# Altium integrated library Xilinx XC3000.IntLib: 584 symbols (part 31 of 34)
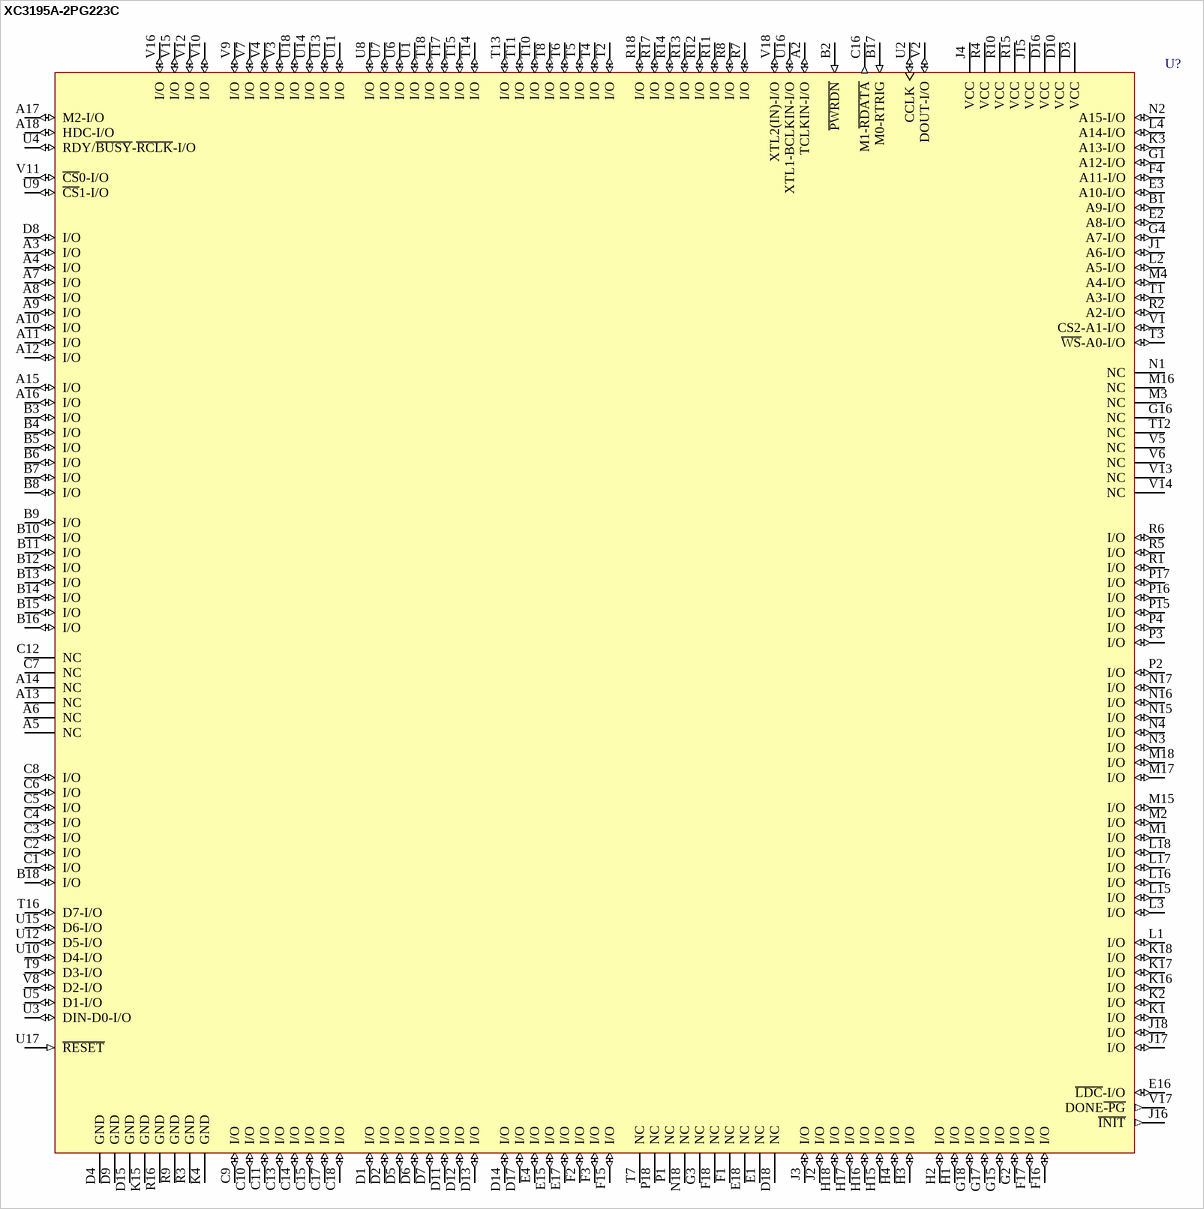
[diagram p347: symbol XC3195A-2PG223C]

## XC3195A-2PG223C
designator U?
Logic Cell Array with 484 CLBs, with 174 I/O Pins, 223-Pin PGA, Commercial Grade; ComponentAvailability: Not for New Design; Published: 8-Jun-2000; LatestRevisionDate: 04-Mar-2005; LatestRevisionNote: Stylized 3D Model Added.; DatasheetVersion: 1994; PackageVersion: ver1.0, Jun-2000; PackageReference: PG223; Publisher: Altium Limited; PackageDescription: 223-Pin Ceramic Pin Grid Array (PG223); ComponentLink1Description: Manufacturer Link; ComponentLink1URL: http://www.xilinx.com/xlnx/xweb/xil_publications_display.jsp?sGlobalNavPick=&sSecondaryNavPick=&category=-18989&iLanguageID=1; ComponentLink2Description: Datasheet; ComponentLink2URL: http://direct.xilinx.com/bvdocs/publications/3000.pdf
footprint PG223 (PGA, 223-Leads, Body 47x47mm, Pitch 2.54mm)
3D model XC3195A-PG223 (223-Pin Ceramic Pin Grid Array (PG223))
pins: A2 TCLKIN-I/O (io), A3 I/O (io), A4 I/O (io), A5 NC, A6 NC, A7 I/O (io), A8 I/O (io), A9 I/O (io), A10 I/O (io), A11 I/O (io), A12 I/O (io), A13 NC, A14 NC, A15 I/O (io), A16 I/O (io), A17 M2-I/O (io), A18 HDC-I/O (io), B1 A9-I/O (io), B2 ~{PWRDN} (in), B3 I/O (io), B4 I/O (io), B5 I/O (io), B6 I/O (io), B7 I/O (io), B8 I/O (io), B9 I/O (io), B10 I/O (io), B11 I/O (io), B12 I/O (io), B13 I/O (io), B14 I/O (io), B15 I/O (io), B16 I/O (io), B17 M0-RTRIG (in), B18 I/O (io), C1 I/O (io), C2 I/O (io), C3 I/O (io), C4 I/O (io), C5 I/O (io), C6 I/O (io), C7 NC, C8 I/O (io), C9 I/O (io), C10 I/O (io), C11 I/O (io), C12 NC, C13 I/O (io), C14 I/O (io), C15 I/O (io), C16 M1-~{RDATA} (out), C17 I/O (io), C18 I/O (io), D1 I/O (io), D2 I/O (io), D3 VCC (power), D4 GND (power), D5 I/O (io), D6 I/O (io), D7 I/O (io), D8 I/O (io), D9 GND (power), D10 VCC (power), D11 I/O (io), D12 I/O (io), D13 I/O (io), D14 I/O (io), D15 GND (power), D16 VCC (power), D17 I/O (io), D18 NC, E1 NC, E2 A8-I/O (io), E3 A10-I/O (io), E4 I/O (io), E15 I/O (io), E16 ~{LDC}-I/O (io), E17 I/O (io), E18 NC, F1 NC, F2 I/O (io), F3 I/O (io), F4 A11-I/O (io), F15 I/O (io), F16 I/O (io), F17 I/O (io), F18 NC, G1 A12-I/O (io), G2 I/O (io), G3 NC, G4 A7-I/O (io), G15 I/O (io), G16 NC, G17 I/O (io), G18 I/O (io), H1 I/O (io), H2 I/O (io), H3 I/O (io), H4 I/O (io), H15 I/O (io), H16 I/O (io), H17 I/O (io), H18 I/O (io), J1 A6-I/O (io), J2 I/O (io), J3 I/O (io), J4 VCC (power), J15 VCC (power), J16 ~{INIT} (out), J17 I/O (io), J18 I/O (io), K1 I/O (io), K2 I/O (io), K3 A13-I/O (io), K4 GND (power), K15 GND (power), K16 I/O (io), K17 I/O (io), K18 I/O (io), L1 I/O (io), L2 A5-I/O (io), L3 I/O (io), L4 A14-I/O (io), L15 I/O (io), L16 I/O (io), L17 I/O (io), L18 I/O (io), M1 I/O (io), M2 I/O (io), M3 NC, M4 A4-I/O (io), M15 I/O (io), M16 NC, M17 I/O (io), M18 I/O (io), N1 NC, N2 A15-I/O (io), N3 I/O (io), N4 I/O (io), N15 I/O (io), N16 I/O (io), N17 I/O (io), N18 NC, P1 NC, P2 I/O (io), P3 I/O (io), P4 I/O (io), P15 I/O (io), P16 I/O (io), P17 I/O (io), P18 NC, R1 I/O (io), R2 A2-I/O (io), R3 GND (power), R4 VCC (power), R5 I/O (io), R6 I/O (io), R7 I/O (io), R8 I/O (io), R9 GND (power), R10 VCC (power), R11 I/O (io), R12 I/O (io), R13 I/O (io), R14 I/O (io), R15 VCC (power), R16 GND (power), R17 I/O (io), R18 I/O (io), T1 A3-I/O (io), T2 I/O (io), T3 ~{WS}-A0-I/O (io), T4 I/O (io), T5 I/O (io), T6 I/O (io), T7 NC, T8 I/O (io), T9 D3-I/O (io), T10 I/O (io), T11 I/O (io), T12 NC, T13 I/O (io), T14 I/O (io), T15 I/O (io), T16 D7-I/O (io), T17 I/O (io), T18 I/O (io), U1 I/O (io), U2 CCLK (io), U3 DIN-D0-I/O (io), U4 RDY/~{BUSY}-~{RCLK}-I/O (io), U5 D1-I/O (io), U6 I/O (io), U7 I/O (io), U8 I/O (io), U9 ~{CS}1-I/O (io), U10 D4-I/O (io), U11 I/O (io), U12 D5-I/O (io), U13 I/O (io), U14 I/O (io), U15 D6-I/O (io), U16 XTL1-BCLKIN-I/O (io), U17 ~{RESET} (in), U18 I/O (io), V1 CS2-A1-I/O (io), V2 DOUT-I/O (io), V3 I/O (io), V4 I/O (io), V5 NC, V6 NC, V7 I/O (io), V8 D2-I/O (io), V9 I/O (io), V10 I/O (io), V11 ~{CS}0-I/O (io), V12 I/O (io), V13 NC, V14 NC, V15 I/O (io), V16 I/O (io), V17 DONE~{-PG} (out), V18 XTL2(IN)-I/O (io)

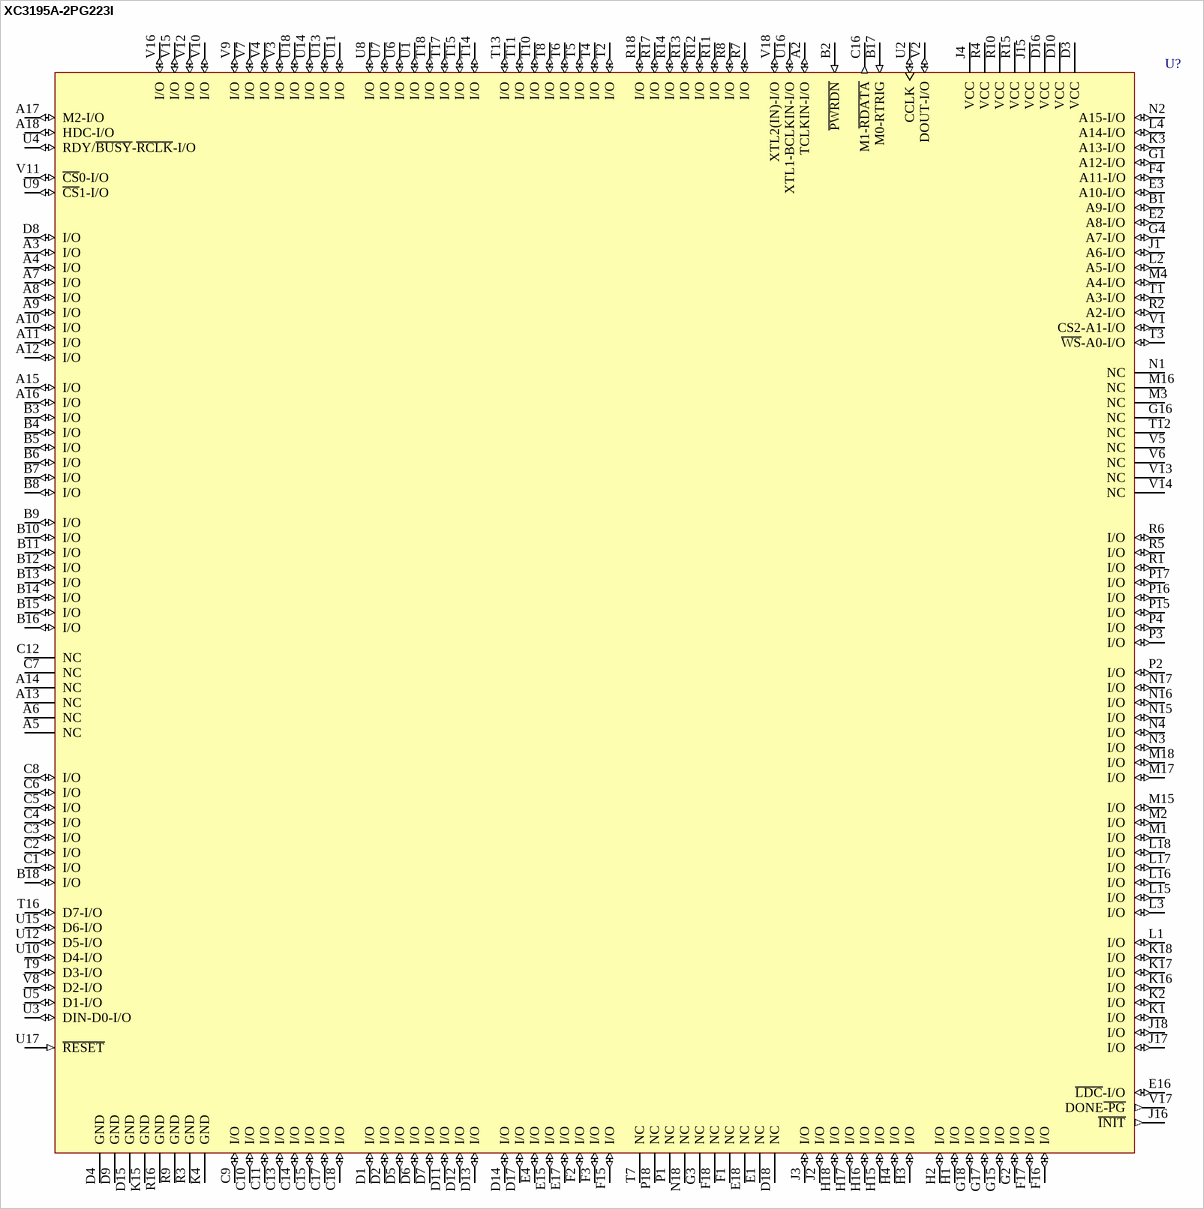
[diagram p275: symbol XC3195A-2PG223I]

## XC3195A-2PG223I
designator U?
Logic Cell Array with 484 CLBs, with 174 I/O Pins, 223-Pin PGA, Industrial Grade; ComponentAvailability: Not for New Design; Published: 8-Jun-2000; LatestRevisionDate: 04-Mar-2005; LatestRevisionNote: Stylized 3D Model Added.; DatasheetVersion: 1994; PackageVersion: ver1.0, Jun-2000; PackageReference: PG223; Publisher: Altium Limited; PackageDescription: 223-Pin Ceramic Pin Grid Array (PG223); ComponentLink1Description: Manufacturer Link; ComponentLink1URL: http://www.xilinx.com/xlnx/xweb/xil_publications_display.jsp?sGlobalNavPick=&sSecondaryNavPick=&category=-18989&iLanguageID=1; ComponentLink2Description: Datasheet; ComponentLink2URL: http://direct.xilinx.com/bvdocs/publications/3000.pdf
footprint PG223 (PGA, 223-Leads, Body 47x47mm, Pitch 2.54mm)
3D model XC3195A-PG223 (223-Pin Ceramic Pin Grid Array (PG223))
pins: A2 TCLKIN-I/O (io), A3 I/O (io), A4 I/O (io), A5 NC, A6 NC, A7 I/O (io), A8 I/O (io), A9 I/O (io), A10 I/O (io), A11 I/O (io), A12 I/O (io), A13 NC, A14 NC, A15 I/O (io), A16 I/O (io), A17 M2-I/O (io), A18 HDC-I/O (io), B1 A9-I/O (io), B2 ~{PWRDN} (in), B3 I/O (io), B4 I/O (io), B5 I/O (io), B6 I/O (io), B7 I/O (io), B8 I/O (io), B9 I/O (io), B10 I/O (io), B11 I/O (io), B12 I/O (io), B13 I/O (io), B14 I/O (io), B15 I/O (io), B16 I/O (io), B17 M0-RTRIG (in), B18 I/O (io), C1 I/O (io), C2 I/O (io), C3 I/O (io), C4 I/O (io), C5 I/O (io), C6 I/O (io), C7 NC, C8 I/O (io), C9 I/O (io), C10 I/O (io), C11 I/O (io), C12 NC, C13 I/O (io), C14 I/O (io), C15 I/O (io), C16 M1-~{RDATA} (out), C17 I/O (io), C18 I/O (io), D1 I/O (io), D2 I/O (io), D3 VCC (power), D4 GND (power), D5 I/O (io), D6 I/O (io), D7 I/O (io), D8 I/O (io), D9 GND (power), D10 VCC (power), D11 I/O (io), D12 I/O (io), D13 I/O (io), D14 I/O (io), D15 GND (power), D16 VCC (power), D17 I/O (io), D18 NC, E1 NC, E2 A8-I/O (io), E3 A10-I/O (io), E4 I/O (io), E15 I/O (io), E16 ~{LDC}-I/O (io), E17 I/O (io), E18 NC, F1 NC, F2 I/O (io), F3 I/O (io), F4 A11-I/O (io), F15 I/O (io), F16 I/O (io), F17 I/O (io), F18 NC, G1 A12-I/O (io), G2 I/O (io), G3 NC, G4 A7-I/O (io), G15 I/O (io), G16 NC, G17 I/O (io), G18 I/O (io), H1 I/O (io), H2 I/O (io), H3 I/O (io), H4 I/O (io), H15 I/O (io), H16 I/O (io), H17 I/O (io), H18 I/O (io), J1 A6-I/O (io), J2 I/O (io), J3 I/O (io), J4 VCC (power), J15 VCC (power), J16 ~{INIT} (out), J17 I/O (io), J18 I/O (io), K1 I/O (io), K2 I/O (io), K3 A13-I/O (io), K4 GND (power), K15 GND (power), K16 I/O (io), K17 I/O (io), K18 I/O (io), L1 I/O (io), L2 A5-I/O (io), L3 I/O (io), L4 A14-I/O (io), L15 I/O (io), L16 I/O (io), L17 I/O (io), L18 I/O (io), M1 I/O (io), M2 I/O (io), M3 NC, M4 A4-I/O (io), M15 I/O (io), M16 NC, M17 I/O (io), M18 I/O (io), N1 NC, N2 A15-I/O (io), N3 I/O (io), N4 I/O (io), N15 I/O (io), N16 I/O (io), N17 I/O (io), N18 NC, P1 NC, P2 I/O (io), P3 I/O (io), P4 I/O (io), P15 I/O (io), P16 I/O (io), P17 I/O (io), P18 NC, R1 I/O (io), R2 A2-I/O (io), R3 GND (power), R4 VCC (power), R5 I/O (io), R6 I/O (io), R7 I/O (io), R8 I/O (io), R9 GND (power), R10 VCC (power), R11 I/O (io), R12 I/O (io), R13 I/O (io), R14 I/O (io), R15 VCC (power), R16 GND (power), R17 I/O (io), R18 I/O (io), T1 A3-I/O (io), T2 I/O (io), T3 ~{WS}-A0-I/O (io), T4 I/O (io), T5 I/O (io), T6 I/O (io), T7 NC, T8 I/O (io), T9 D3-I/O (io), T10 I/O (io), T11 I/O (io), T12 NC, T13 I/O (io), T14 I/O (io), T15 I/O (io), T16 D7-I/O (io), T17 I/O (io), T18 I/O (io), U1 I/O (io), U2 CCLK (io), U3 DIN-D0-I/O (io), U4 RDY/~{BUSY}-~{RCLK}-I/O (io), U5 D1-I/O (io), U6 I/O (io), U7 I/O (io), U8 I/O (io), U9 ~{CS}1-I/O (io), U10 D4-I/O (io), U11 I/O (io), U12 D5-I/O (io), U13 I/O (io), U14 I/O (io), U15 D6-I/O (io), U16 XTL1-BCLKIN-I/O (io), U17 ~{RESET} (in), U18 I/O (io), V1 CS2-A1-I/O (io), V2 DOUT-I/O (io), V3 I/O (io), V4 I/O (io), V5 NC, V6 NC, V7 I/O (io), V8 D2-I/O (io), V9 I/O (io), V10 I/O (io), V11 ~{CS}0-I/O (io), V12 I/O (io), V13 NC, V14 NC, V15 I/O (io), V16 I/O (io), V17 DONE~{-PG} (out), V18 XTL2(IN)-I/O (io)

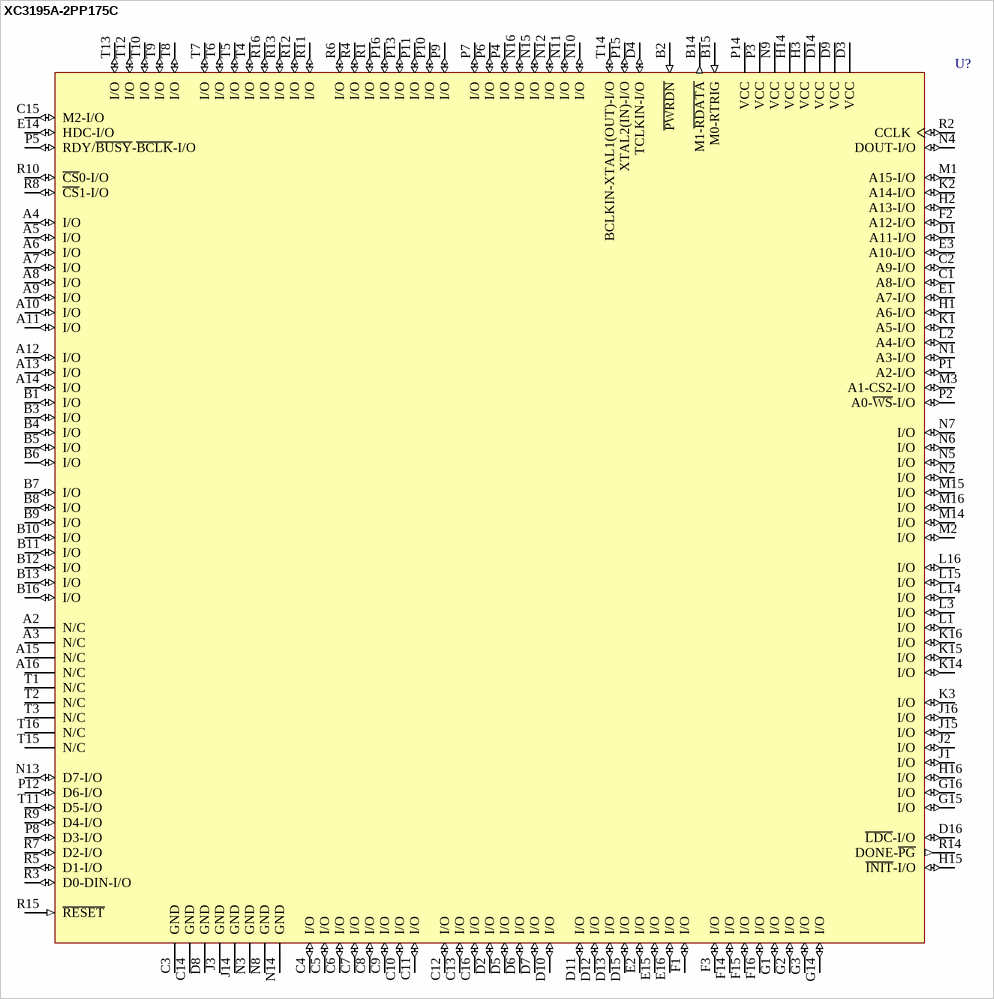
[diagram p276: symbol XC3195A-2PP175C]

## XC3195A-2PP175C
designator U?
Logic Cell Array with 484 CLBs, with 144 I/O Pins, 175-Pin PGA, Commercial Grade; ComponentAvailability: Not for New Design; Published: 8-Jun-2000; LatestRevisionDate: 04-Mar-2005; LatestRevisionNote: Stylized 3D Model Added.; DatasheetVersion: 1994; PackageVersion: ver1.1, Apr-2001; PackageReference: PP175; Publisher: Altium Limited; PackageDescription: 175-Pin Plastic Pin Grid Array (PP175); Code_JEDEC: MO-083-AH; ComponentLink1Description: Manufacturer Link; ComponentLink1URL: http://www.xilinx.com/xlnx/xweb/xil_publications_display.jsp?sGlobalNavPick=&sSecondaryNavPick=&category=-18989&iLanguageID=1; ComponentLink2Description: Datasheet; ComponentLink2URL: http://direct.xilinx.com/bvdocs/publications/3000.pdf
footprint PP175 (PGA, 175-Leads, Body 42x42mm, Pitch 2.54mm)
3D model XC3195A-PP175 (175-Pin Plastic Pin Grid Array (PP175))
pins: A2 N/C, A3 N/C, A4 I/O (io), A5 I/O (io), A6 I/O (io), A7 I/O (io), A8 I/O (io), A9 I/O (io), A10 I/O (io), A11 I/O (io), A12 I/O (io), A13 I/O (io), A14 I/O (io), A15 N/C, A16 N/C, B1 I/O (io), B2 ~{PWRDN} (in), B3 I/O (io), B4 I/O (io), B5 I/O (io), B6 I/O (io), B7 I/O (io), B8 I/O (io), B9 I/O (io), B10 I/O (io), B11 I/O (io), B12 I/O (io), B13 I/O (io), B14 M1-~{RDATA} (out), B15 M0-RTRIG (in), B16 I/O (io), C1 A8-I/O (io), C2 A9-I/O (io), C3 GND (power), C4 I/O (io), C5 I/O (io), C6 I/O (io), C7 I/O (io), C8 I/O (io), C9 I/O (io), C10 I/O (io), C11 I/O (io), C12 I/O (io), C13 I/O (io), C14 GND (power), C15 M2-I/O (io), C16 I/O (io), D1 A11-I/O (io), D2 I/O (io), D3 VCC (power), D4 TCLKIN-I/O (io), D5 I/O (io), D6 I/O (io), D7 I/O (io), D8 GND (power), D9 VCC (power), D10 I/O (io), D11 I/O (io), D12 I/O (io), D13 I/O (io), D14 VCC (power), D15 I/O (io), D16 ~{LDC}-I/O (io), E1 A7-I/O (io), E2 I/O (io), E3 A10-I/O (io), E14 HDC-I/O (io), E15 I/O (io), E16 I/O (io), F1 I/O (io), F2 A12-I/O (io), F3 I/O (io), F14 I/O (io), F15 I/O (io), F16 I/O (io), G1 I/O (io), G2 I/O (io), G3 I/O (io), G14 I/O (io), G15 I/O (io), G16 I/O (io), H1 A6-I/O (io), H2 A13-I/O (io), H3 VCC (power), H14 VCC (power), H15 ~{INIT}-I/O (io), H16 I/O (io), J1 I/O (io), J2 I/O (io), J3 GND (power), J14 GND (power), J15 I/O (io), J16 I/O (io), K1 A5-I/O (io), K2 A14-I/O (io), K3 I/O (io), K14 I/O (io), K15 I/O (io), K16 I/O (io), L1 I/O (io), L2 A4-I/O (io), L3 I/O (io), L14 I/O (io), L15 I/O (io), L16 I/O (io), M1 A15-I/O (io), M2 I/O (io), M3 A1-CS2-I/O (io), M14 I/O (io), M15 I/O (io), M16 I/O (io), N1 A3-I/O (io), N2 I/O (io), N3 GND (power), N4 DOUT-I/O (io), N5 I/O (io), N6 I/O (io), N7 I/O (io), N8 GND (power), N9 VCC (power), N10 I/O (io), N11 I/O (io), N12 I/O (io), N13 D7-I/O (io), N14 GND (power), N15 I/O (io), N16 I/O (io), P1 A2-I/O (io), P2 A0-~{WS}-I/O (io), P3 VCC (power), P4 I/O (io), P5 RDY/~{BUSY}-~{BCLK}-I/O (io), P6 I/O (io), P7 I/O (io), P8 D3-I/O (io), P9 I/O (io), P10 I/O (io), P11 I/O (io), P12 D6-I/O (io), P13 I/O (io), P14 VCC (power), P15 XTAL2(IN)-I/O (io), P16 I/O (io), R1 I/O (io), R2 CCLK (io), R3 D0-DIN-I/O (io), R4 I/O (io), R5 D1-I/O (io), R6 I/O (io), R7 D2-I/O (io), R8 ~{CS}1-I/O (io), R9 D4-I/O (io), R10 ~{CS}0-I/O (io), R11 I/O (io), R12 I/O (io), R13 I/O (io), R14 DONE-~{PG} (out), R15 ~{RESET} (in), R16 I/O (io), T1 N/C, T2 N/C, T3 N/C, T4 I/O (io), T5 I/O (io), T6 I/O (io), T7 I/O (io), T8 I/O (io), T9 I/O (io), T10 I/O (io), T11 D5-I/O (io), T12 I/O (io), T13 I/O (io), T14 BCLKIN-XTAL1(OUT)-I/O (io), T15 N/C, T16 N/C

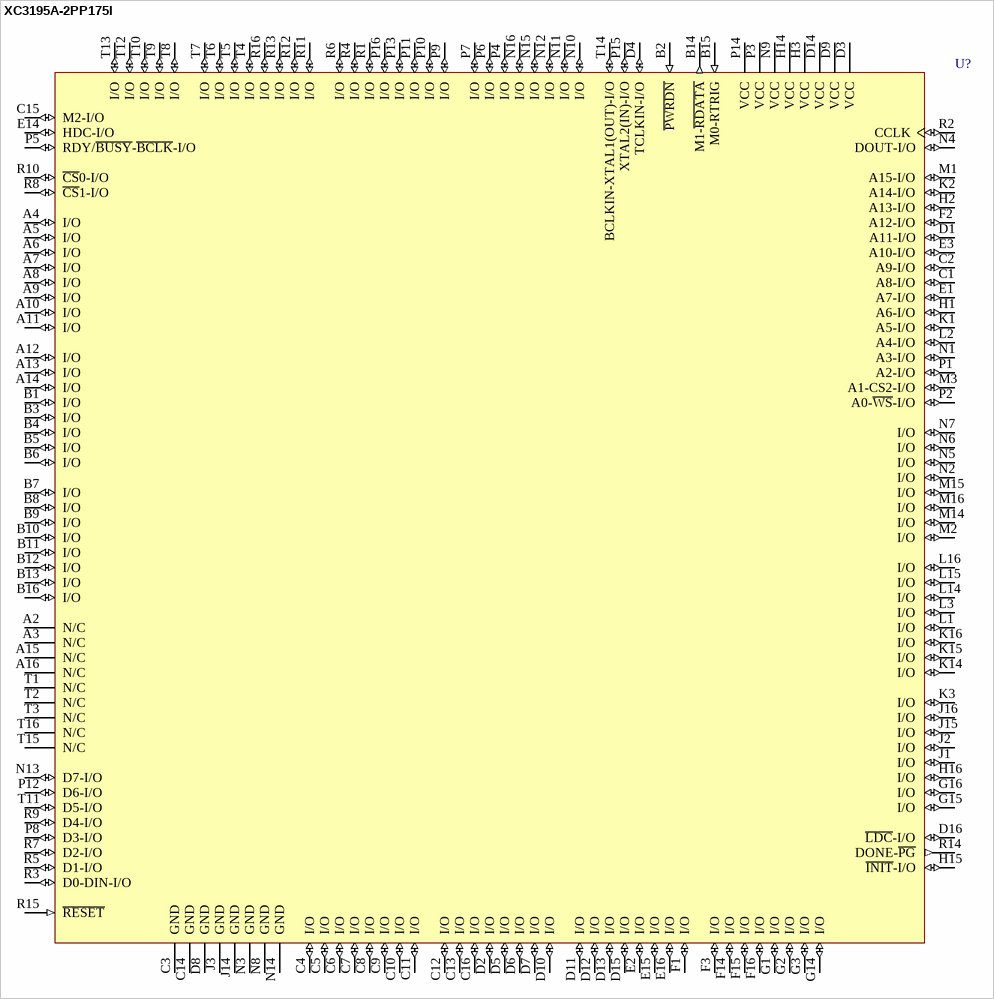
[diagram p277: symbol XC3195A-2PP175I]

## XC3195A-2PP175I
designator U?
Logic Cell Array with 484 CLBs, with 144 I/O Pins, 175-Pin PGA, Industrial Grade; ComponentAvailability: Not for New Design; Published: 8-Jun-2000; LatestRevisionDate: 04-Mar-2005; LatestRevisionNote: Stylized 3D Model Added.; DatasheetVersion: 1994; PackageVersion: ver1.1, Apr-2001; PackageReference: PP175; Publisher: Altium Limited; PackageDescription: 175-Pin Plastic Pin Grid Array (PP175); Code_JEDEC: MO-083-AH; ComponentLink1Description: Manufacturer Link; ComponentLink1URL: http://www.xilinx.com/xlnx/xweb/xil_publications_display.jsp?sGlobalNavPick=&sSecondaryNavPick=&category=-18989&iLanguageID=1; ComponentLink2Description: Datasheet; ComponentLink2URL: http://direct.xilinx.com/bvdocs/publications/3000.pdf
footprint PP175 (PGA, 175-Leads, Body 42x42mm, Pitch 2.54mm)
3D model XC3195A-PP175 (175-Pin Plastic Pin Grid Array (PP175))
pins: A2 N/C, A3 N/C, A4 I/O (io), A5 I/O (io), A6 I/O (io), A7 I/O (io), A8 I/O (io), A9 I/O (io), A10 I/O (io), A11 I/O (io), A12 I/O (io), A13 I/O (io), A14 I/O (io), A15 N/C, A16 N/C, B1 I/O (io), B2 ~{PWRDN} (in), B3 I/O (io), B4 I/O (io), B5 I/O (io), B6 I/O (io), B7 I/O (io), B8 I/O (io), B9 I/O (io), B10 I/O (io), B11 I/O (io), B12 I/O (io), B13 I/O (io), B14 M1-~{RDATA} (out), B15 M0-RTRIG (in), B16 I/O (io), C1 A8-I/O (io), C2 A9-I/O (io), C3 GND (power), C4 I/O (io), C5 I/O (io), C6 I/O (io), C7 I/O (io), C8 I/O (io), C9 I/O (io), C10 I/O (io), C11 I/O (io), C12 I/O (io), C13 I/O (io), C14 GND (power), C15 M2-I/O (io), C16 I/O (io), D1 A11-I/O (io), D2 I/O (io), D3 VCC (power), D4 TCLKIN-I/O (io), D5 I/O (io), D6 I/O (io), D7 I/O (io), D8 GND (power), D9 VCC (power), D10 I/O (io), D11 I/O (io), D12 I/O (io), D13 I/O (io), D14 VCC (power), D15 I/O (io), D16 ~{LDC}-I/O (io), E1 A7-I/O (io), E2 I/O (io), E3 A10-I/O (io), E14 HDC-I/O (io), E15 I/O (io), E16 I/O (io), F1 I/O (io), F2 A12-I/O (io), F3 I/O (io), F14 I/O (io), F15 I/O (io), F16 I/O (io), G1 I/O (io), G2 I/O (io), G3 I/O (io), G14 I/O (io), G15 I/O (io), G16 I/O (io), H1 A6-I/O (io), H2 A13-I/O (io), H3 VCC (power), H14 VCC (power), H15 ~{INIT}-I/O (io), H16 I/O (io), J1 I/O (io), J2 I/O (io), J3 GND (power), J14 GND (power), J15 I/O (io), J16 I/O (io), K1 A5-I/O (io), K2 A14-I/O (io), K3 I/O (io), K14 I/O (io), K15 I/O (io), K16 I/O (io), L1 I/O (io), L2 A4-I/O (io), L3 I/O (io), L14 I/O (io), L15 I/O (io), L16 I/O (io), M1 A15-I/O (io), M2 I/O (io), M3 A1-CS2-I/O (io), M14 I/O (io), M15 I/O (io), M16 I/O (io), N1 A3-I/O (io), N2 I/O (io), N3 GND (power), N4 DOUT-I/O (io), N5 I/O (io), N6 I/O (io), N7 I/O (io), N8 GND (power), N9 VCC (power), N10 I/O (io), N11 I/O (io), N12 I/O (io), N13 D7-I/O (io), N14 GND (power), N15 I/O (io), N16 I/O (io), P1 A2-I/O (io), P2 A0-~{WS}-I/O (io), P3 VCC (power), P4 I/O (io), P5 RDY/~{BUSY}-~{BCLK}-I/O (io), P6 I/O (io), P7 I/O (io), P8 D3-I/O (io), P9 I/O (io), P10 I/O (io), P11 I/O (io), P12 D6-I/O (io), P13 I/O (io), P14 VCC (power), P15 XTAL2(IN)-I/O (io), P16 I/O (io), R1 I/O (io), R2 CCLK (io), R3 D0-DIN-I/O (io), R4 I/O (io), R5 D1-I/O (io), R6 I/O (io), R7 D2-I/O (io), R8 ~{CS}1-I/O (io), R9 D4-I/O (io), R10 ~{CS}0-I/O (io), R11 I/O (io), R12 I/O (io), R13 I/O (io), R14 DONE-~{PG} (out), R15 ~{RESET} (in), R16 I/O (io), T1 N/C, T2 N/C, T3 N/C, T4 I/O (io), T5 I/O (io), T6 I/O (io), T7 I/O (io), T8 I/O (io), T9 I/O (io), T10 I/O (io), T11 D5-I/O (io), T12 I/O (io), T13 I/O (io), T14 BCLKIN-XTAL1(OUT)-I/O (io), T15 N/C, T16 N/C

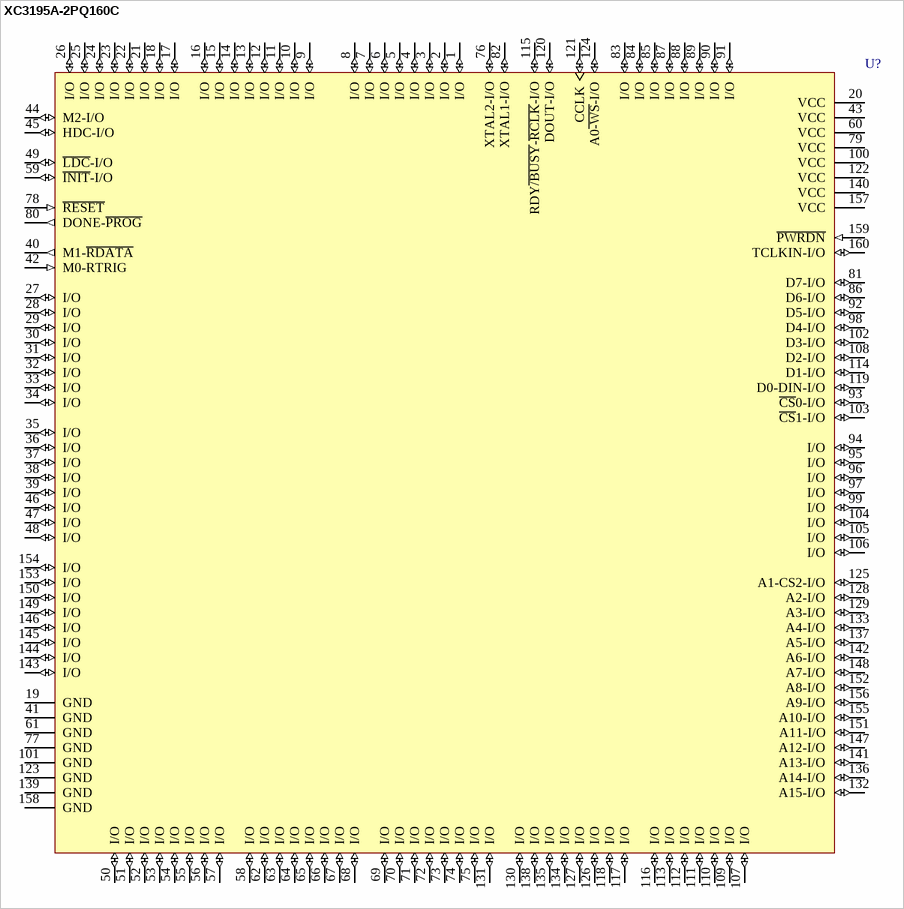
[diagram p278: symbol XC3195A-2PQ160C]

## XC3195A-2PQ160C
designator U?
Logic Cell Array with 484 CLBs, with 138 I/O Pins, 160-Pin PQFP, Commercial Grade; ComponentAvailability: Not for New Design; Published: 8-Jun-2000; LatestRevisionDate: 13-Apr-2006; LatestRevisionNote: IPC-7351 Footprint Added.; DatasheetVersion: 1994; PackageVersion: ver1.2, Jun-2004; PackageReference: PQ160; Publisher: Altium Limited; PackageDescription: 160-Pin Plastic Quad Flat Pack (PQ160); Code_JEDEC: MS-022-DD1; Code_IPC: QFP65P3120X3120-160; ComponentLink1Description: Manufacturer Link; ComponentLink1URL: http://www.xilinx.com/xlnx/xweb/xil_publications_display.jsp?sGlobalNavPick=&sSecondaryNavPick=&category=-18989&iLanguageID=1; ComponentLink2Description: Datasheet; ComponentLink2URL: http://direct.xilinx.com/bvdocs/publications/3000.pdf
footprint PQ160_N (QFP, 160-Leads, Body 28 x 28mm, Pitch 0.65mm, IPC Medium Density)
footprint PQ160_L (QFP, 160-Leads, Body 28 x 28mm, Pitch 0.65mm, IPC High Density)
footprint PQ160_M (QFP, 160-Leads, Body 28 x 28mm, Pitch 0.65mm, IPC Low Density)
3D model XC3195A-PQ160 (160-Pin Plastic Quad Flat Pack (PQ160))
pins: 1 I/O (io), 2 I/O (io), 3 I/O (io), 4 I/O (io), 5 I/O (io), 6 I/O (io), 7 I/O (io), 8 I/O (io), 9 I/O (io), 10 I/O (io), 11 I/O (io), 12 I/O (io), 13 I/O (io), 14 I/O (io), 15 I/O (io), 16 I/O (io), 17 I/O (io), 18 I/O (io), 19 GND (power), 20 VCC (power), 21 I/O (io), 22 I/O (io), 23 I/O (io), 24 I/O (io), 25 I/O (io), 26 I/O (io), 27 I/O (io), 28 I/O (io), 29 I/O (io), 30 I/O (io), 31 I/O (io), 32 I/O (io), 33 I/O (io), 34 I/O (io), 35 I/O (io), 36 I/O (io), 37 I/O (io), 38 I/O (io), 39 I/O (io), 40 M1-~{RDATA} (out), 41 GND (power), 42 M0-RTRIG (in), 43 VCC (power), 44 M2-I/O (io), 45 HDC-I/O (io), 46 I/O (io), 47 I/O (io), 48 I/O (io), 49 ~{LDC}-I/O (io), 50 I/O (io), 51 I/O (io), 52 I/O (io), 53 I/O (io), 54 I/O (io), 55 I/O (io), 56 I/O (io), 57 I/O (io), 58 I/O (io), 59 ~{INIT}-I/O (io), 60 VCC (power), 61 GND (power), 62 I/O (io), 63 I/O (io), 64 I/O (io), 65 I/O (io), 66 I/O (io), 67 I/O (io), 68 I/O (io), 69 I/O (io), 70 I/O (io), 71 I/O (io), 72 I/O (io), 73 I/O (io), 74 I/O (io), 75 I/O (io), 76 XTAL2-I/O (io), 77 GND (power), 78 ~{RESET} (in), 79 VCC (power), 80 DONE-~{PROG} (out), 81 D7-I/O (io), 82 XTAL1-I/O (io), 83 I/O (io), 84 I/O (io), 85 I/O (io), 86 D6-I/O (io), 87 I/O (io), 88 I/O (io), 89 I/O (io), 90 I/O (io), 91 I/O (io), 92 D5-I/O (io), 93 ~{CS}0-I/O (io), 94 I/O (io), 95 I/O (io), 96 I/O (io), 97 I/O (io), 98 D4-I/O (io), 99 I/O (io), 100 VCC (power), 101 GND (power), 102 D3-I/O (io), 103 ~{CS}1-I/O (io), 104 I/O (io), 105 I/O (io), 106 I/O (io), 107 I/O (io), 108 D2-I/O (io), 109 I/O (io), 110 I/O (io), 111 I/O (io), 112 I/O (io), 113 I/O (io), 114 D1-I/O (io), 115 RDY~{/BUSY}-~{RCLK}-I/O (io), 116 I/O (io), 117 I/O (io), 118 I/O (io), 119 D0-DIN-I/O (io), 120 DOUT-I/O (io), 121 CCLK (io), 122 VCC (power), 123 GND (power), 124 A0~{-WS}-I/O (io), 125 A1-CS2-I/O (io), 126 I/O (io), 127 I/O (io), 128 A2-I/O (io), 129 A3-I/O (io), 130 I/O (io), 131 I/O (io), 132 A15-I/O (io), 133 A4-I/O (io), 134 I/O (io), 135 I/O (io), 136 A14-I/O (io), 137 A5-I/O (io), 138 I/O (io), 139 GND (power), 140 VCC (power), 141 A13-I/O (io), 142 A6-I/O (io), 143 I/O (io), 144 I/O (io), 145 I/O (io), 146 I/O (io), 147 A12-I/O (io), 148 A7-I/O (io), 149 I/O (io), 150 I/O (io), 151 A11-I/O (io), 152 A8-I/O (io), 153 I/O (io), 154 I/O (io), 155 A10-I/O (io), 156 A9-I/O (io), 157 VCC (power), 158 GND (power), 159 ~{PWRDN} (in), 160 TCLKIN-I/O (io)

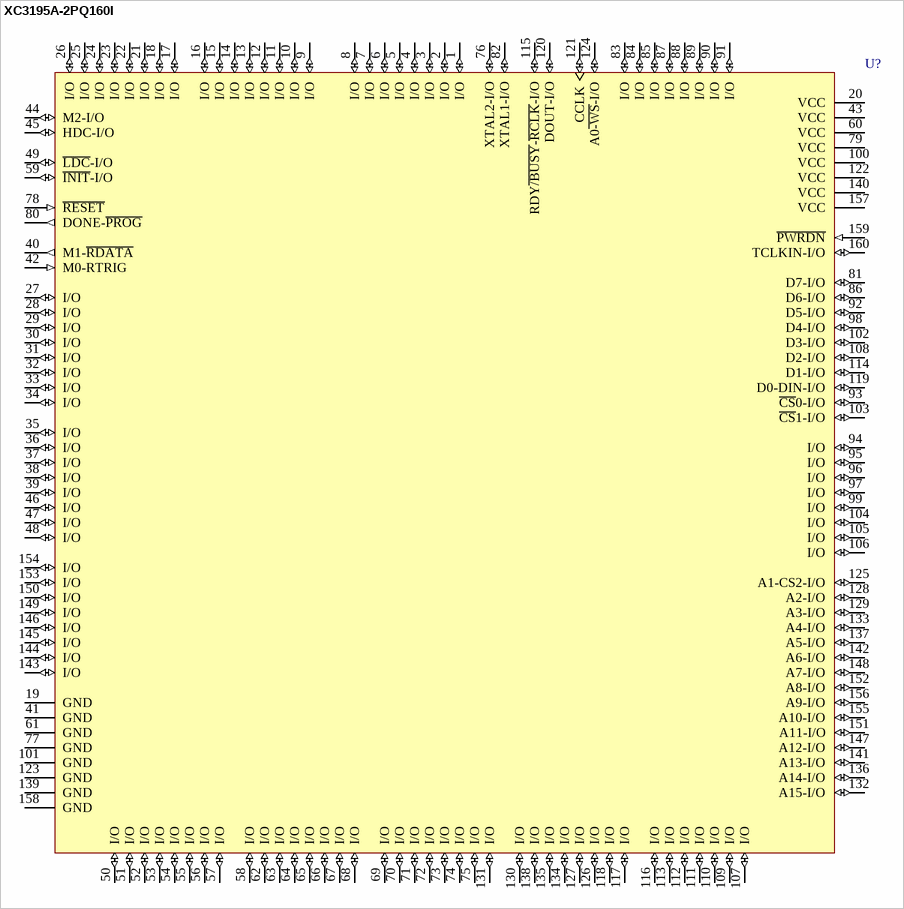
[diagram p279: symbol XC3195A-2PQ160I]

## XC3195A-2PQ160I
designator U?
Logic Cell Array with 484 CLBs, with 138 I/O Pins, 160-Pin PQFP, Industrial Grade; ComponentAvailability: Not for New Design; Published: 8-Jun-2000; LatestRevisionDate: 13-Apr-2006; LatestRevisionNote: IPC-7351 Footprint Added.; DatasheetVersion: 1994; PackageVersion: ver1.2, Jun-2004; PackageReference: PQ160; Publisher: Altium Limited; PackageDescription: 160-Pin Plastic Quad Flat Pack (PQ160); Code_JEDEC: MS-022-DD1; Code_IPC: QFP65P3120X3120-160; ComponentLink1Description: Manufacturer Link; ComponentLink1URL: http://www.xilinx.com/xlnx/xweb/xil_publications_display.jsp?sGlobalNavPick=&sSecondaryNavPick=&category=-18989&iLanguageID=1; ComponentLink2Description: Datasheet; ComponentLink2URL: http://direct.xilinx.com/bvdocs/publications/3000.pdf
footprint PQ160_N (QFP, 160-Leads, Body 28 x 28mm, Pitch 0.65mm, IPC Medium Density)
footprint PQ160_L (QFP, 160-Leads, Body 28 x 28mm, Pitch 0.65mm, IPC High Density)
footprint PQ160_M (QFP, 160-Leads, Body 28 x 28mm, Pitch 0.65mm, IPC Low Density)
3D model XC3195A-PQ160 (160-Pin Plastic Quad Flat Pack (PQ160))
pins: 1 I/O (io), 2 I/O (io), 3 I/O (io), 4 I/O (io), 5 I/O (io), 6 I/O (io), 7 I/O (io), 8 I/O (io), 9 I/O (io), 10 I/O (io), 11 I/O (io), 12 I/O (io), 13 I/O (io), 14 I/O (io), 15 I/O (io), 16 I/O (io), 17 I/O (io), 18 I/O (io), 19 GND (power), 20 VCC (power), 21 I/O (io), 22 I/O (io), 23 I/O (io), 24 I/O (io), 25 I/O (io), 26 I/O (io), 27 I/O (io), 28 I/O (io), 29 I/O (io), 30 I/O (io), 31 I/O (io), 32 I/O (io), 33 I/O (io), 34 I/O (io), 35 I/O (io), 36 I/O (io), 37 I/O (io), 38 I/O (io), 39 I/O (io), 40 M1-~{RDATA} (out), 41 GND (power), 42 M0-RTRIG (in), 43 VCC (power), 44 M2-I/O (io), 45 HDC-I/O (io), 46 I/O (io), 47 I/O (io), 48 I/O (io), 49 ~{LDC}-I/O (io), 50 I/O (io), 51 I/O (io), 52 I/O (io), 53 I/O (io), 54 I/O (io), 55 I/O (io), 56 I/O (io), 57 I/O (io), 58 I/O (io), 59 ~{INIT}-I/O (io), 60 VCC (power), 61 GND (power), 62 I/O (io), 63 I/O (io), 64 I/O (io), 65 I/O (io), 66 I/O (io), 67 I/O (io), 68 I/O (io), 69 I/O (io), 70 I/O (io), 71 I/O (io), 72 I/O (io), 73 I/O (io), 74 I/O (io), 75 I/O (io), 76 XTAL2-I/O (io), 77 GND (power), 78 ~{RESET} (in), 79 VCC (power), 80 DONE-~{PROG} (out), 81 D7-I/O (io), 82 XTAL1-I/O (io), 83 I/O (io), 84 I/O (io), 85 I/O (io), 86 D6-I/O (io), 87 I/O (io), 88 I/O (io), 89 I/O (io), 90 I/O (io), 91 I/O (io), 92 D5-I/O (io), 93 ~{CS}0-I/O (io), 94 I/O (io), 95 I/O (io), 96 I/O (io), 97 I/O (io), 98 D4-I/O (io), 99 I/O (io), 100 VCC (power), 101 GND (power), 102 D3-I/O (io), 103 ~{CS}1-I/O (io), 104 I/O (io), 105 I/O (io), 106 I/O (io), 107 I/O (io), 108 D2-I/O (io), 109 I/O (io), 110 I/O (io), 111 I/O (io), 112 I/O (io), 113 I/O (io), 114 D1-I/O (io), 115 RDY~{/BUSY}-~{RCLK}-I/O (io), 116 I/O (io), 117 I/O (io), 118 I/O (io), 119 D0-DIN-I/O (io), 120 DOUT-I/O (io), 121 CCLK (io), 122 VCC (power), 123 GND (power), 124 A0~{-WS}-I/O (io), 125 A1-CS2-I/O (io), 126 I/O (io), 127 I/O (io), 128 A2-I/O (io), 129 A3-I/O (io), 130 I/O (io), 131 I/O (io), 132 A15-I/O (io), 133 A4-I/O (io), 134 I/O (io), 135 I/O (io), 136 A14-I/O (io), 137 A5-I/O (io), 138 I/O (io), 139 GND (power), 140 VCC (power), 141 A13-I/O (io), 142 A6-I/O (io), 143 I/O (io), 144 I/O (io), 145 I/O (io), 146 I/O (io), 147 A12-I/O (io), 148 A7-I/O (io), 149 I/O (io), 150 I/O (io), 151 A11-I/O (io), 152 A8-I/O (io), 153 I/O (io), 154 I/O (io), 155 A10-I/O (io), 156 A9-I/O (io), 157 VCC (power), 158 GND (power), 159 ~{PWRDN} (in), 160 TCLKIN-I/O (io)

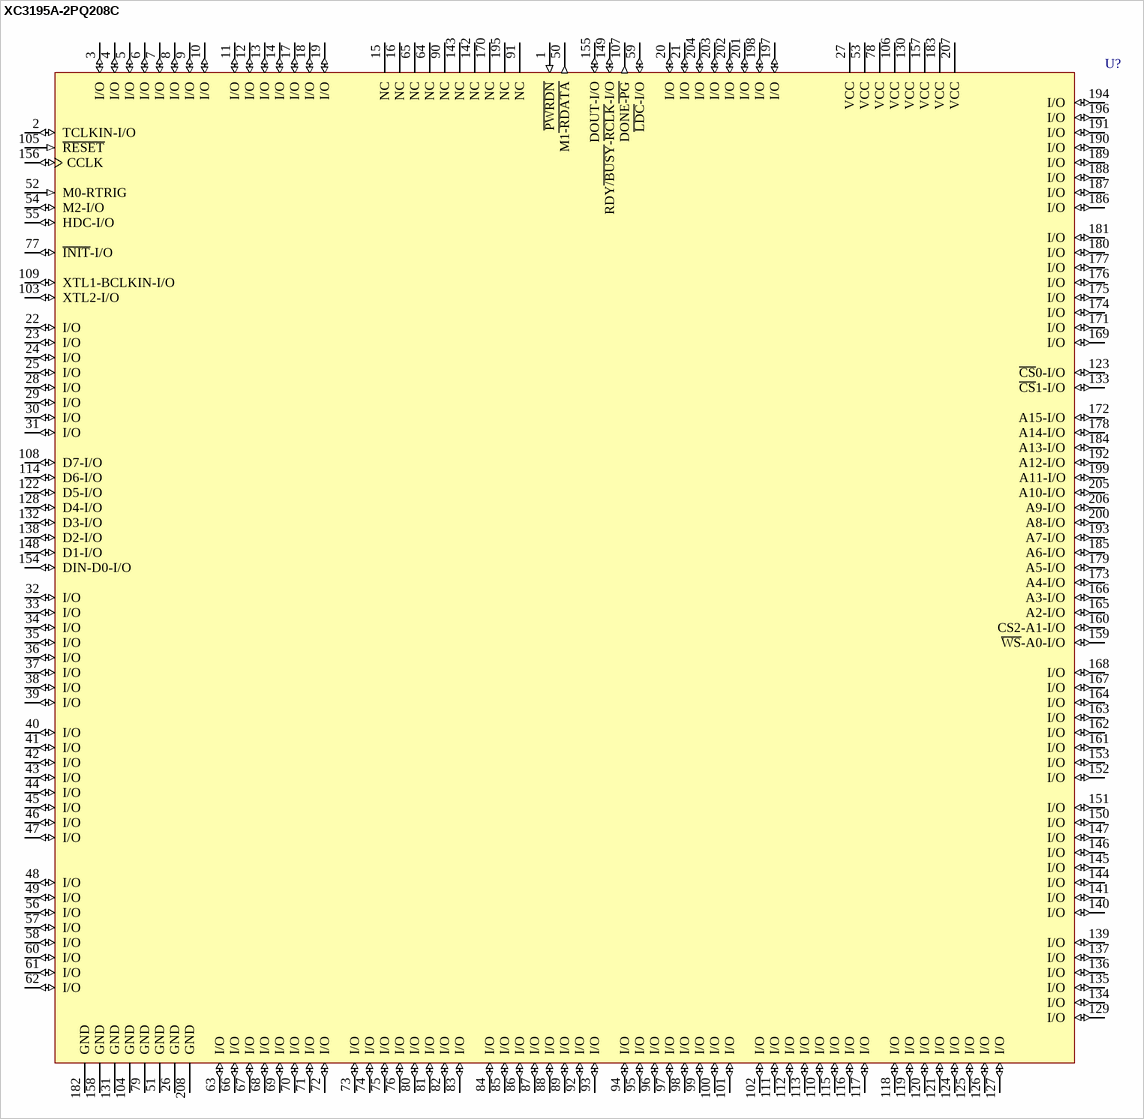
[diagram p280: symbol XC3195A-2PQ208C]

## XC3195A-2PQ208C
designator U?
Logic Cell Array with 484 CLBs, with 176 I/O Pins, 208-Pin PQFP, Commercial Grade; ComponentAvailability: Not for New Design; Published: 8-Jun-2000; LatestRevisionDate: 13-Apr-2006; LatestRevisionNote: IPC-7351 Footprint Added.; DatasheetVersion: 1994; PackageVersion: ver1.2, Jun-2004; PackageReference: PQ208; Publisher: Altium Limited; PackageDescription: 208-Pin Plastic Quad Flat Pack (PQ208); Code_JEDEC: MS-029-FA-1; ComponentLink1Description: Manufacturer Link; ComponentLink1URL: http://www.xilinx.com/xlnx/xweb/xil_publications_display.jsp?sGlobalNavPick=&sSecondaryNavPick=&category=-18989&iLanguageID=1; ComponentLink2Description: Datasheet; ComponentLink2URL: http://direct.xilinx.com/bvdocs/publications/3000.pdf
footprint PQ208_N (Shrink QFP, 208-Leads, Body 28x28mm, Pitch 0.5mm, IPC Medium Density)
footprint PQ208_L (Shrink QFP, 208-Leads, Body 28x28mm, Pitch 0.5mm, IPC High Density)
footprint PQ208_M (Shrink QFP, 208-Leads, Body 28x28mm, Pitch 0.5mm, IPC Low Density)
3D model XC3195A-PQ208 (208-Pin Plastic Quad Flat Pack (PQ208))
pins: 1 ~{PWRDN} (in), 2 TCLKIN-I/O (io), 3 I/O (io), 4 I/O (io), 5 I/O (io), 6 I/O (io), 7 I/O (io), 8 I/O (io), 9 I/O (io), 10 I/O (io), 11 I/O (io), 12 I/O (io), 13 I/O (io), 14 I/O (io), 15 NC, 16 NC, 17 I/O (io), 18 I/O (io), 19 I/O (io), 20 I/O (io), 21 I/O (io), 22 I/O (io), 23 I/O (io), 24 I/O (io), 25 I/O (io), 26 GND (power), 27 VCC (power), 28 I/O (io), 29 I/O (io), 30 I/O (io), 31 I/O (io), 32 I/O (io), 33 I/O (io), 34 I/O (io), 35 I/O (io), 36 I/O (io), 37 I/O (io), 38 I/O (io), 39 I/O (io), 40 I/O (io), 41 I/O (io), 42 I/O (io), 43 I/O (io), 44 I/O (io), 45 I/O (io), 46 I/O (io), 47 I/O (io), 48 I/O (io), 49 I/O (io), 50 M1~{-RDATA} (out), 51 GND (power), 52 M0-RTRIG (in), 53 VCC (power), 54 M2-I/O (io), 55 HDC-I/O (io), 56 I/O (io), 57 I/O (io), 58 I/O (io), 59 ~{LDC}-I/O (io), 60 I/O (io), 61 I/O (io), 62 I/O (io), 63 I/O (io), 64 NC, 65 NC, 66 I/O (io), 67 I/O (io), 68 I/O (io), 69 I/O (io), 70 I/O (io), 71 I/O (io), 72 I/O (io), 73 I/O (io), 74 I/O (io), 75 I/O (io), 76 I/O (io), 77 ~{INIT}-I/O (io), 78 VCC (power), 79 GND (power), 80 I/O (io), 81 I/O (io), 82 I/O (io), 83 I/O (io), 84 I/O (io), 85 I/O (io), 86 I/O (io), 87 I/O (io), 88 I/O (io), 89 I/O (io), 90 NC, 91 NC, 92 I/O (io), 93 I/O (io), 94 I/O (io), 95 I/O (io), 96 I/O (io), 97 I/O (io), 98 I/O (io), 99 I/O (io), 100 I/O (io), 101 I/O (io), 102 I/O (io), 103 XTL2-I/O (io), 104 GND (power), 105 ~{RESET} (in), 106 VCC (power), 107 DONE~{-PG} (out), 108 D7-I/O (io), 109 XTL1-BCLKIN-I/O (io), 110 I/O (io), 111 I/O (io), 112 I/O (io), 113 I/O (io), 114 D6-I/O (io), 115 I/O (io), 116 I/O (io), 117 I/O (io), 118 I/O (io), 119 I/O (io), 120 I/O (io), 121 I/O (io), 122 D5-I/O (io), 123 ~{CS}0-I/O (io), 124 I/O (io), 125 I/O (io), 126 I/O (io), 127 I/O (io), 128 D4-I/O (io), 129 I/O (io), 130 VCC (power), 131 GND (power), 132 D3-I/O (io), 133 ~{CS}1-I/O (io), 134 I/O (io), 135 I/O (io), 136 I/O (io), 137 I/O (io), 138 D2-I/O (io), 139 I/O (io), 140 I/O (io), 141 I/O (io), 142 NC, 143 NC, 144 I/O (io), 145 I/O (io), 146 I/O (io), 147 I/O (io), 148 D1-I/O (io), 149 RDY~{/BUSY}-~{RCLK}-I/O (io), 150 I/O (io), 151 I/O (io), 152 I/O (io), 153 I/O (io), 154 DIN-D0-I/O (io), 155 DOUT-I/O (io), 156 CCLK (io), 157 VCC (power), 158 GND (power), 159 ~{WS}-A0-I/O (io), 160 CS2-A1-I/O (io), 161 I/O (io), 162 I/O (io), 163 I/O (io), 164 I/O (io), 165 A2-I/O (io), 166 A3-I/O (io), 167 I/O (io), 168 I/O (io), 169 I/O (io), 170 NC, 171 I/O (io), 172 A15-I/O (io), 173 A4-I/O (io), 174 I/O (io), 175 I/O (io), 176 I/O (io), 177 I/O (io), 178 A14-I/O (io), 179 A5-I/O (io), 180 I/O (io), 181 I/O (io), 182 GND (power), 183 VCC (power), 184 A13-I/O (io), 185 A6-I/O (io), 186 I/O (io), 187 I/O (io), 188 I/O (io), 189 I/O (io), 190 I/O (io), 191 I/O (io), 192 A12-I/O (io), 193 A7-I/O (io), 194 I/O (io), 195 NC, 196 I/O (io), 197 I/O (io), 198 I/O (io), 199 A11-I/O (io), 200 A8-I/O (io), 201 I/O (io), 202 I/O (io), 203 I/O (io), 204 I/O (io), 205 A10-I/O (io), 206 A9-I/O (io), 207 VCC (power), 208 GND (power)

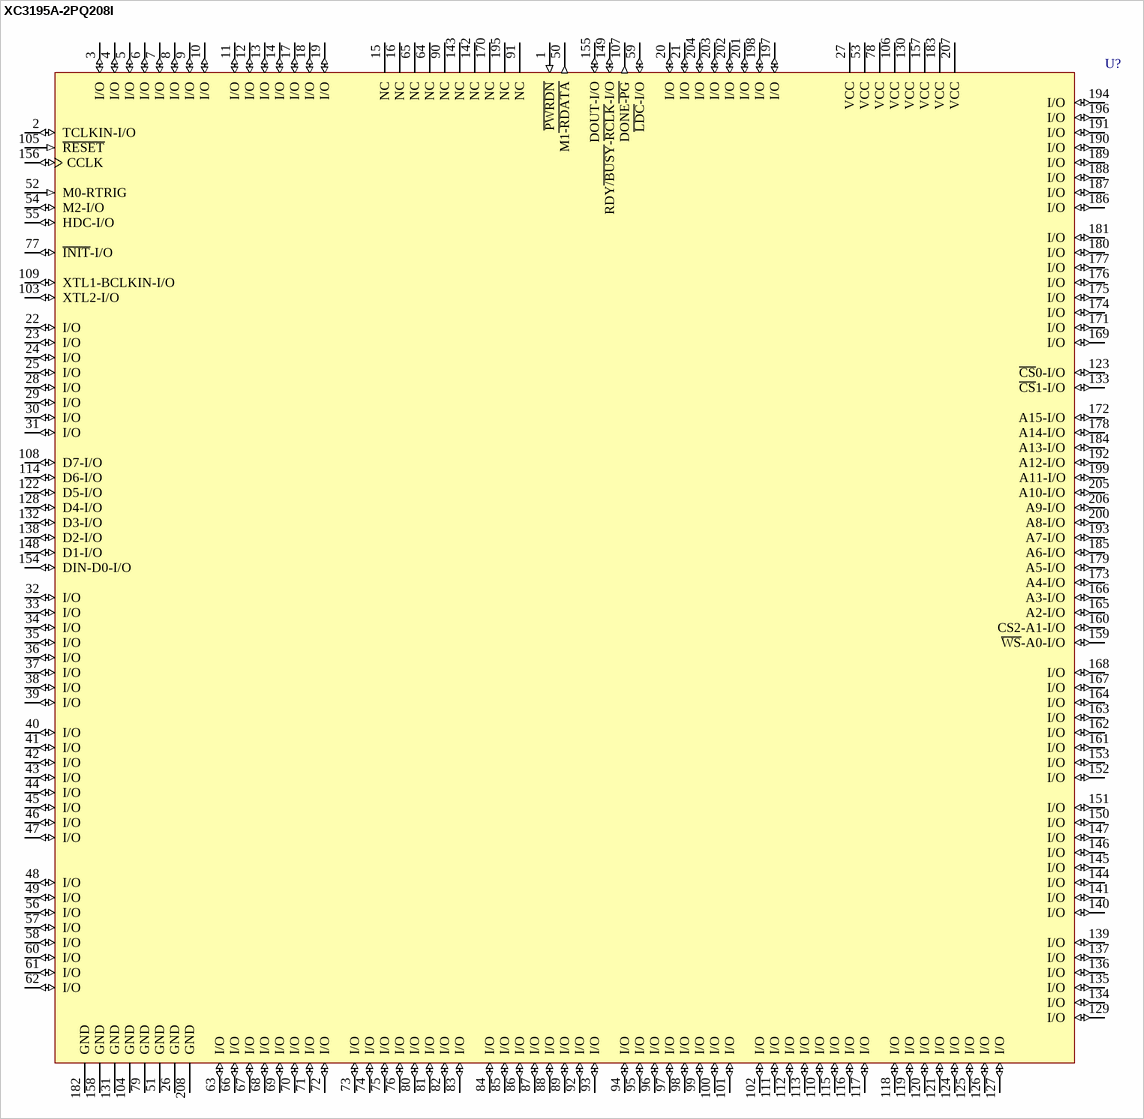
[diagram p281: symbol XC3195A-2PQ208I]

## XC3195A-2PQ208I
designator U?
Logic Cell Array with 484 CLBs, with 176 I/O Pins, 208-Pin PQFP, Industrial Grade; ComponentAvailability: Not for New Design; Published: 8-Jun-2000; LatestRevisionDate: 13-Apr-2006; LatestRevisionNote: IPC-7351 Footprint Added.; DatasheetVersion: 1994; PackageVersion: ver1.2, Jun-2004; PackageReference: PQ208; Publisher: Altium Limited; PackageDescription: 208-Pin Plastic Quad Flat Pack (PQ208); Code_JEDEC: MS-029-FA-1; ComponentLink1Description: Manufacturer Link; ComponentLink1URL: http://www.xilinx.com/xlnx/xweb/xil_publications_display.jsp?sGlobalNavPick=&sSecondaryNavPick=&category=-18989&iLanguageID=1; ComponentLink2Description: Datasheet; ComponentLink2URL: http://direct.xilinx.com/bvdocs/publications/3000.pdf
footprint PQ208_N (Shrink QFP, 208-Leads, Body 28x28mm, Pitch 0.5mm, IPC Medium Density)
footprint PQ208_L (Shrink QFP, 208-Leads, Body 28x28mm, Pitch 0.5mm, IPC High Density)
footprint PQ208_M (Shrink QFP, 208-Leads, Body 28x28mm, Pitch 0.5mm, IPC Low Density)
3D model XC3195A-PQ208 (208-Pin Plastic Quad Flat Pack (PQ208))
pins: 1 ~{PWRDN} (in), 2 TCLKIN-I/O (io), 3 I/O (io), 4 I/O (io), 5 I/O (io), 6 I/O (io), 7 I/O (io), 8 I/O (io), 9 I/O (io), 10 I/O (io), 11 I/O (io), 12 I/O (io), 13 I/O (io), 14 I/O (io), 15 NC, 16 NC, 17 I/O (io), 18 I/O (io), 19 I/O (io), 20 I/O (io), 21 I/O (io), 22 I/O (io), 23 I/O (io), 24 I/O (io), 25 I/O (io), 26 GND (power), 27 VCC (power), 28 I/O (io), 29 I/O (io), 30 I/O (io), 31 I/O (io), 32 I/O (io), 33 I/O (io), 34 I/O (io), 35 I/O (io), 36 I/O (io), 37 I/O (io), 38 I/O (io), 39 I/O (io), 40 I/O (io), 41 I/O (io), 42 I/O (io), 43 I/O (io), 44 I/O (io), 45 I/O (io), 46 I/O (io), 47 I/O (io), 48 I/O (io), 49 I/O (io), 50 M1~{-RDATA} (out), 51 GND (power), 52 M0-RTRIG (in), 53 VCC (power), 54 M2-I/O (io), 55 HDC-I/O (io), 56 I/O (io), 57 I/O (io), 58 I/O (io), 59 ~{LDC}-I/O (io), 60 I/O (io), 61 I/O (io), 62 I/O (io), 63 I/O (io), 64 NC, 65 NC, 66 I/O (io), 67 I/O (io), 68 I/O (io), 69 I/O (io), 70 I/O (io), 71 I/O (io), 72 I/O (io), 73 I/O (io), 74 I/O (io), 75 I/O (io), 76 I/O (io), 77 ~{INIT}-I/O (io), 78 VCC (power), 79 GND (power), 80 I/O (io), 81 I/O (io), 82 I/O (io), 83 I/O (io), 84 I/O (io), 85 I/O (io), 86 I/O (io), 87 I/O (io), 88 I/O (io), 89 I/O (io), 90 NC, 91 NC, 92 I/O (io), 93 I/O (io), 94 I/O (io), 95 I/O (io), 96 I/O (io), 97 I/O (io), 98 I/O (io), 99 I/O (io), 100 I/O (io), 101 I/O (io), 102 I/O (io), 103 XTL2-I/O (io), 104 GND (power), 105 ~{RESET} (in), 106 VCC (power), 107 DONE~{-PG} (out), 108 D7-I/O (io), 109 XTL1-BCLKIN-I/O (io), 110 I/O (io), 111 I/O (io), 112 I/O (io), 113 I/O (io), 114 D6-I/O (io), 115 I/O (io), 116 I/O (io), 117 I/O (io), 118 I/O (io), 119 I/O (io), 120 I/O (io), 121 I/O (io), 122 D5-I/O (io), 123 ~{CS}0-I/O (io), 124 I/O (io), 125 I/O (io), 126 I/O (io), 127 I/O (io), 128 D4-I/O (io), 129 I/O (io), 130 VCC (power), 131 GND (power), 132 D3-I/O (io), 133 ~{CS}1-I/O (io), 134 I/O (io), 135 I/O (io), 136 I/O (io), 137 I/O (io), 138 D2-I/O (io), 139 I/O (io), 140 I/O (io), 141 I/O (io), 142 NC, 143 NC, 144 I/O (io), 145 I/O (io), 146 I/O (io), 147 I/O (io), 148 D1-I/O (io), 149 RDY~{/BUSY}-~{RCLK}-I/O (io), 150 I/O (io), 151 I/O (io), 152 I/O (io), 153 I/O (io), 154 DIN-D0-I/O (io), 155 DOUT-I/O (io), 156 CCLK (io), 157 VCC (power), 158 GND (power), 159 ~{WS}-A0-I/O (io), 160 CS2-A1-I/O (io), 161 I/O (io), 162 I/O (io), 163 I/O (io), 164 I/O (io), 165 A2-I/O (io), 166 A3-I/O (io), 167 I/O (io), 168 I/O (io), 169 I/O (io), 170 NC, 171 I/O (io), 172 A15-I/O (io), 173 A4-I/O (io), 174 I/O (io), 175 I/O (io), 176 I/O (io), 177 I/O (io), 178 A14-I/O (io), 179 A5-I/O (io), 180 I/O (io), 181 I/O (io), 182 GND (power), 183 VCC (power), 184 A13-I/O (io), 185 A6-I/O (io), 186 I/O (io), 187 I/O (io), 188 I/O (io), 189 I/O (io), 190 I/O (io), 191 I/O (io), 192 A12-I/O (io), 193 A7-I/O (io), 194 I/O (io), 195 NC, 196 I/O (io), 197 I/O (io), 198 I/O (io), 199 A11-I/O (io), 200 A8-I/O (io), 201 I/O (io), 202 I/O (io), 203 I/O (io), 204 I/O (io), 205 A10-I/O (io), 206 A9-I/O (io), 207 VCC (power), 208 GND (power)

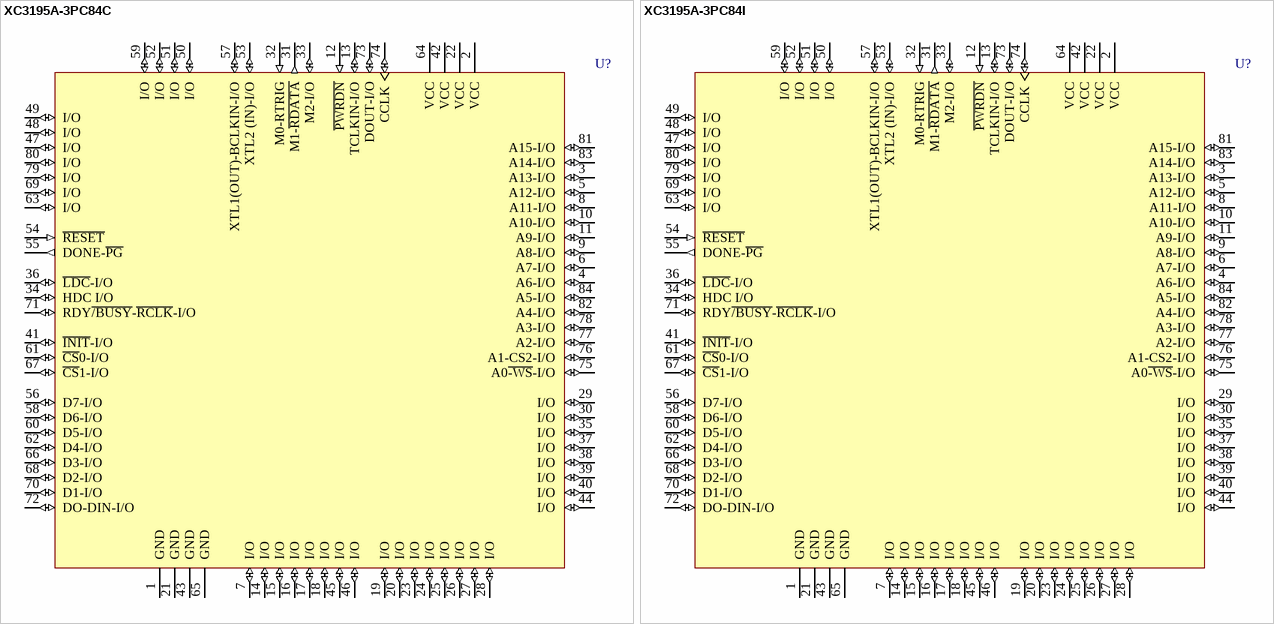
[diagram p282: symbols XC3195A-3PC84C to XC3195A-3PC84I]

## XC3195A-3PC84C
designator U?
Logic Cell Array with 484 CLBs, with 70 I/O Pins, 84-Pin PLCC, Commercial Grade; ComponentAvailability: Not for New Design; Published: 8-Jun-2000; LatestRevisionDate: 13-Apr-2006; LatestRevisionNote: IPC-7351 Footprint Added.; DatasheetVersion: 1994; PackageVersion: ver1.2, Jun-2004; PackageReference: PC84; Publisher: Altium Limited; PackageDescription: 84-Pin Plastic Leaded Chip Carrier (PC84); Code_JEDEC: MS-047; Code_IPC: PLCC-84; ComponentLink1Description: Manufacturer Link; ComponentLink1URL: http://www.xilinx.com/xlnx/xweb/xil_publications_display.jsp?sGlobalNavPick=&sSecondaryNavPick=&category=-18989&iLanguageID=1; ComponentLink2Description: Datasheet; ComponentLink2URL: http://direct.xilinx.com/bvdocs/publications/3000.pdf
footprint PC84_N (Leaded Chip Carrier, 84-Leads, Body 29.3x29.3mm, Pitch 1.27mm, IPC Medium Density)
footprint PC84_L (Leaded Chip Carrier, 84-Leads, Body 29.3x29.3mm, Pitch 1.27mm, IPC High Density)
footprint PC84_M (Leaded Chip Carrier, 84-Leads, Body 29.3x29.3mm, Pitch 1.27mm, IPC Low Density)
3D model XC3195A-PC84 (84-Pin Plastic Leaded Chip Carrier (PC84))
pins: 1 GND (power), 2 VCC (power), 3 A13-I/O (io), 4 A6-I/O (io), 5 A12-I/O (io), 6 A7-I/O (io), 7 I/O (io), 8 A11-I/O (io), 9 A8-I/O (io), 10 A10-I/O (io), 11 A9-I/O (io), 12 ~{PWRDN} (in), 13 TCLKIN-I/O (io), 14 I/O (io), 15 I/O (io), 16 I/O (io), 17 I/O (io), 18 I/O (io), 19 I/O (io), 20 I/O (io), 21 GND (power), 22 VCC (power), 23 I/O (io), 24 I/O (io), 25 I/O (io), 26 I/O (io), 27 I/O (io), 28 I/O (io), 29 I/O (io), 30 I/O (io), 31 M1-~{RDATA} (out), 32 M0-RTRIG (in), 33 M2-I/O (io), 34 HDC I/O (io), 35 I/O (io), 36 ~{LDC}-I/O (io), 37 I/O (io), 38 I/O (io), 39 I/O (io), 40 I/O (io), 41 ~{INIT}-I/O (io), 42 VCC (power), 43 GND (power), 44 I/O (io), 45 I/O (io), 46 I/O (io), 47 I/O (io), 48 I/O (io), 49 I/O (io), 50 I/O (io), 51 I/O (io), 52 I/O (io), 53 XTL2 (IN)-I/O (io), 54 ~{RESET} (in), 55 DONE-~{PG} (out), 56 D7-I/O (io), 57 XTL1(OUT)-BCLKIN-I/O (io), 58 D6-I/O (io), 59 I/O (io), 60 D5-I/O (io), 61 ~{CS}0-I/O (io), 62 D4-I/O (io), 63 I/O (io), 64 VCC (power), 65 GND (power), 66 D3-I/O (io), 67 ~{CS}1-I/O (io), 68 D2-I/O (io), 69 I/O (io), 70 D1-I/O (io), 71 RDY~{/BUSY}-~{RCLK}-I/O (io), 72 DO-DIN-I/O (io), 73 DOUT-I/O (io), 74 CCLK (io), 75 A0~{-WS}-I/O (io), 76 A1-CS2-I/O (io), 77 A2-I/O (io), 78 A3-I/O (io), 79 I/O (io), 80 I/O (io), 81 A15-I/O (io), 82 A4-I/O (io), 83 A14-I/O (io), 84 A5-I/O (io)

## XC3195A-3PC84I
designator U?
Logic Cell Array with 484 CLBs, with 70 I/O Pins, 84-Pin PLCC, Industrial Grade; ComponentAvailability: Not for New Design; Published: 8-Jun-2000; LatestRevisionDate: 13-Apr-2006; LatestRevisionNote: IPC-7351 Footprint Added.; DatasheetVersion: 1994; PackageVersion: ver1.2, Jun-2004; PackageReference: PC84; Publisher: Altium Limited; PackageDescription: 84-Pin Plastic Leaded Chip Carrier (PC84); Code_JEDEC: MS-047; Code_IPC: PLCC-84; ComponentLink1Description: Manufacturer Link; ComponentLink1URL: http://www.xilinx.com/xlnx/xweb/xil_publications_display.jsp?sGlobalNavPick=&sSecondaryNavPick=&category=-18989&iLanguageID=1; ComponentLink2Description: Datasheet; ComponentLink2URL: http://direct.xilinx.com/bvdocs/publications/3000.pdf
footprint PC84_N (Leaded Chip Carrier, 84-Leads, Body 29.3x29.3mm, Pitch 1.27mm, IPC Medium Density)
footprint PC84_L (Leaded Chip Carrier, 84-Leads, Body 29.3x29.3mm, Pitch 1.27mm, IPC High Density)
footprint PC84_M (Leaded Chip Carrier, 84-Leads, Body 29.3x29.3mm, Pitch 1.27mm, IPC Low Density)
3D model XC3195A-PC84 (84-Pin Plastic Leaded Chip Carrier (PC84))
pins: 1 GND (power), 2 VCC (power), 3 A13-I/O (io), 4 A6-I/O (io), 5 A12-I/O (io), 6 A7-I/O (io), 7 I/O (io), 8 A11-I/O (io), 9 A8-I/O (io), 10 A10-I/O (io), 11 A9-I/O (io), 12 ~{PWRDN} (in), 13 TCLKIN-I/O (io), 14 I/O (io), 15 I/O (io), 16 I/O (io), 17 I/O (io), 18 I/O (io), 19 I/O (io), 20 I/O (io), 21 GND (power), 22 VCC (power), 23 I/O (io), 24 I/O (io), 25 I/O (io), 26 I/O (io), 27 I/O (io), 28 I/O (io), 29 I/O (io), 30 I/O (io), 31 M1-~{RDATA} (out), 32 M0-RTRIG (in), 33 M2-I/O (io), 34 HDC I/O (io), 35 I/O (io), 36 ~{LDC}-I/O (io), 37 I/O (io), 38 I/O (io), 39 I/O (io), 40 I/O (io), 41 ~{INIT}-I/O (io), 42 VCC (power), 43 GND (power), 44 I/O (io), 45 I/O (io), 46 I/O (io), 47 I/O (io), 48 I/O (io), 49 I/O (io), 50 I/O (io), 51 I/O (io), 52 I/O (io), 53 XTL2 (IN)-I/O (io), 54 ~{RESET} (in), 55 DONE-~{PG} (out), 56 D7-I/O (io), 57 XTL1(OUT)-BCLKIN-I/O (io), 58 D6-I/O (io), 59 I/O (io), 60 D5-I/O (io), 61 ~{CS}0-I/O (io), 62 D4-I/O (io), 63 I/O (io), 64 VCC (power), 65 GND (power), 66 D3-I/O (io), 67 ~{CS}1-I/O (io), 68 D2-I/O (io), 69 I/O (io), 70 D1-I/O (io), 71 RDY~{/BUSY}-~{RCLK}-I/O (io), 72 DO-DIN-I/O (io), 73 DOUT-I/O (io), 74 CCLK (io), 75 A0~{-WS}-I/O (io), 76 A1-CS2-I/O (io), 77 A2-I/O (io), 78 A3-I/O (io), 79 I/O (io), 80 I/O (io), 81 A15-I/O (io), 82 A4-I/O (io), 83 A14-I/O (io), 84 A5-I/O (io)

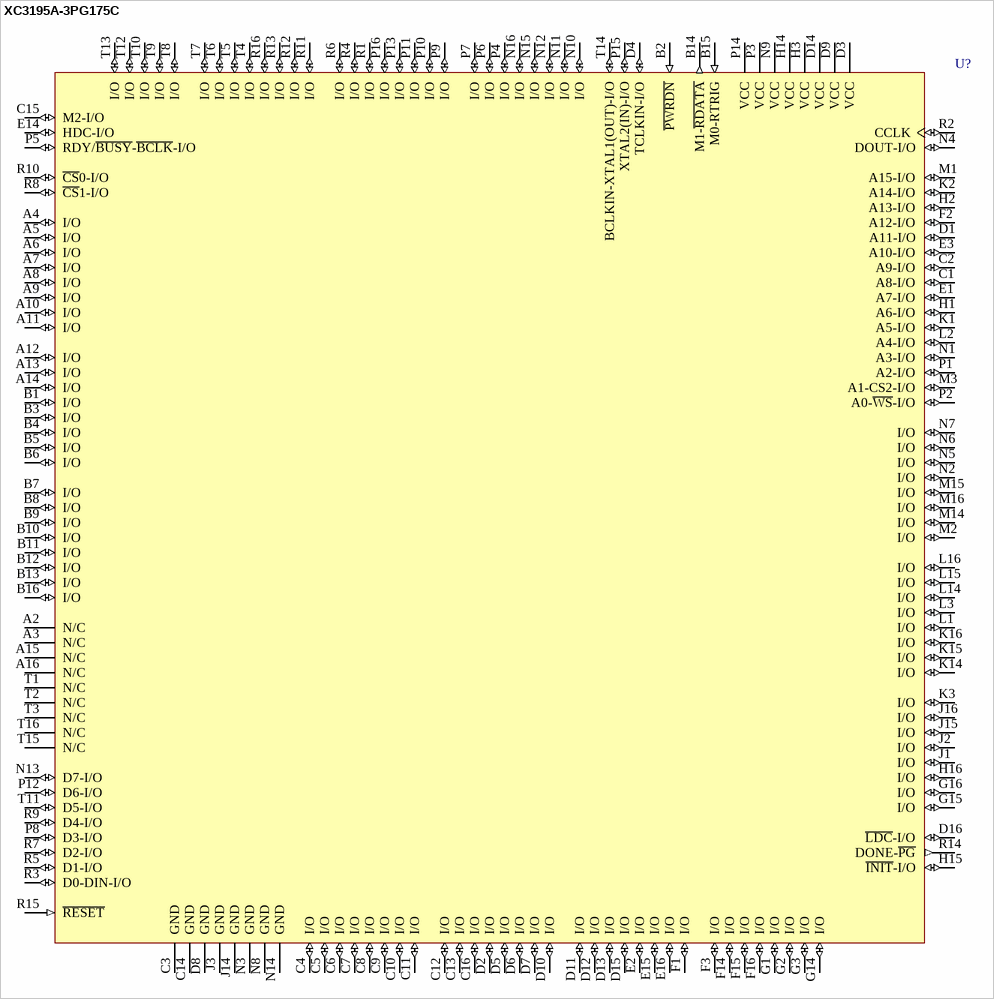
[diagram p283: symbol XC3195A-3PG175C]

## XC3195A-3PG175C
designator U?
Logic Cell Array with 484 CLBs, with 144 I/O Pins, 175-Pin PGA, Commercial Grade; ComponentAvailability: Not for New Design; Published: 8-Jun-2000; LatestRevisionDate: 04-Mar-2005; LatestRevisionNote: Stylized 3D Model Added.; DatasheetVersion: 1994; PackageVersion: ver1.1, Apr-2001; PackageReference: PG175; Publisher: Altium Limited; PackageDescription: 175-Pin Ceramic Pin Grid Array (PG175); Code_JEDEC: MO-067-AH; ComponentLink1Description: Manufacturer Link; ComponentLink1URL: http://www.xilinx.com/xlnx/xweb/xil_publications_display.jsp?sGlobalNavPick=&sSecondaryNavPick=&category=-18989&iLanguageID=1; ComponentLink2Description: Datasheet; ComponentLink2URL: http://direct.xilinx.com/bvdocs/publications/3000.pdf
footprint PG175 (PGA, 175-Leads, Body 42x42mm, Pitch 2.54mm)
3D model XC3195A-PG175 (175-Pin Ceramic Pin Grid Array (PG175))
pins: A2 N/C, A3 N/C, A4 I/O (io), A5 I/O (io), A6 I/O (io), A7 I/O (io), A8 I/O (io), A9 I/O (io), A10 I/O (io), A11 I/O (io), A12 I/O (io), A13 I/O (io), A14 I/O (io), A15 N/C, A16 N/C, B1 I/O (io), B2 ~{PWRDN} (in), B3 I/O (io), B4 I/O (io), B5 I/O (io), B6 I/O (io), B7 I/O (io), B8 I/O (io), B9 I/O (io), B10 I/O (io), B11 I/O (io), B12 I/O (io), B13 I/O (io), B14 M1-~{RDATA} (out), B15 M0-RTRIG (in), B16 I/O (io), C1 A8-I/O (io), C2 A9-I/O (io), C3 GND (power), C4 I/O (io), C5 I/O (io), C6 I/O (io), C7 I/O (io), C8 I/O (io), C9 I/O (io), C10 I/O (io), C11 I/O (io), C12 I/O (io), C13 I/O (io), C14 GND (power), C15 M2-I/O (io), C16 I/O (io), D1 A11-I/O (io), D2 I/O (io), D3 VCC (power), D4 TCLKIN-I/O (io), D5 I/O (io), D6 I/O (io), D7 I/O (io), D8 GND (power), D9 VCC (power), D10 I/O (io), D11 I/O (io), D12 I/O (io), D13 I/O (io), D14 VCC (power), D15 I/O (io), D16 ~{LDC}-I/O (io), E1 A7-I/O (io), E2 I/O (io), E3 A10-I/O (io), E14 HDC-I/O (io), E15 I/O (io), E16 I/O (io), F1 I/O (io), F2 A12-I/O (io), F3 I/O (io), F14 I/O (io), F15 I/O (io), F16 I/O (io), G1 I/O (io), G2 I/O (io), G3 I/O (io), G14 I/O (io), G15 I/O (io), G16 I/O (io), H1 A6-I/O (io), H2 A13-I/O (io), H3 VCC (power), H14 VCC (power), H15 ~{INIT}-I/O (io), H16 I/O (io), J1 I/O (io), J2 I/O (io), J3 GND (power), J14 GND (power), J15 I/O (io), J16 I/O (io), K1 A5-I/O (io), K2 A14-I/O (io), K3 I/O (io), K14 I/O (io), K15 I/O (io), K16 I/O (io), L1 I/O (io), L2 A4-I/O (io), L3 I/O (io), L14 I/O (io), L15 I/O (io), L16 I/O (io), M1 A15-I/O (io), M2 I/O (io), M3 A1-CS2-I/O (io), M14 I/O (io), M15 I/O (io), M16 I/O (io), N1 A3-I/O (io), N2 I/O (io), N3 GND (power), N4 DOUT-I/O (io), N5 I/O (io), N6 I/O (io), N7 I/O (io), N8 GND (power), N9 VCC (power), N10 I/O (io), N11 I/O (io), N12 I/O (io), N13 D7-I/O (io), N14 GND (power), N15 I/O (io), N16 I/O (io), P1 A2-I/O (io), P2 A0-~{WS}-I/O (io), P3 VCC (power), P4 I/O (io), P5 RDY/~{BUSY}-~{BCLK}-I/O (io), P6 I/O (io), P7 I/O (io), P8 D3-I/O (io), P9 I/O (io), P10 I/O (io), P11 I/O (io), P12 D6-I/O (io), P13 I/O (io), P14 VCC (power), P15 XTAL2(IN)-I/O (io), P16 I/O (io), R1 I/O (io), R2 CCLK (io), R3 D0-DIN-I/O (io), R4 I/O (io), R5 D1-I/O (io), R6 I/O (io), R7 D2-I/O (io), R8 ~{CS}1-I/O (io), R9 D4-I/O (io), R10 ~{CS}0-I/O (io), R11 I/O (io), R12 I/O (io), R13 I/O (io), R14 DONE-~{PG} (out), R15 ~{RESET} (in), R16 I/O (io), T1 N/C, T2 N/C, T3 N/C, T4 I/O (io), T5 I/O (io), T6 I/O (io), T7 I/O (io), T8 I/O (io), T9 I/O (io), T10 I/O (io), T11 D5-I/O (io), T12 I/O (io), T13 I/O (io), T14 BCLKIN-XTAL1(OUT)-I/O (io), T15 N/C, T16 N/C

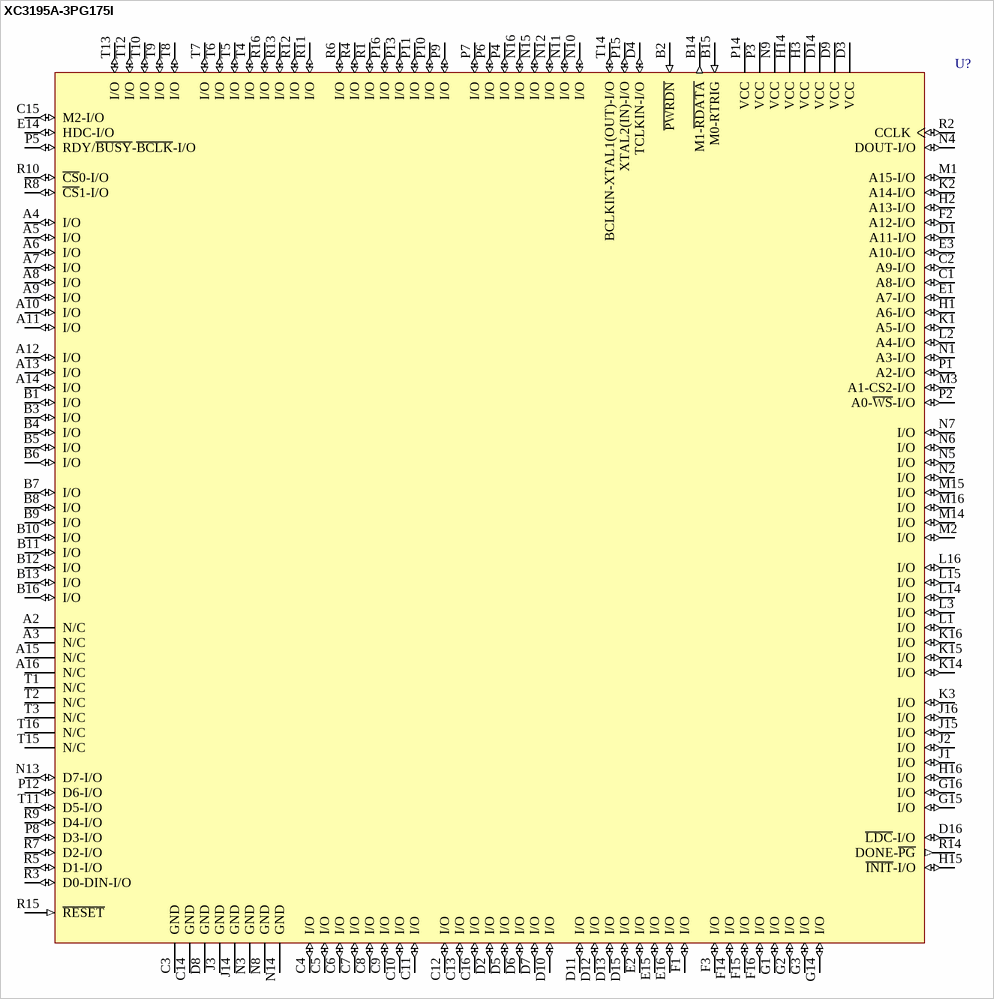
[diagram p284: symbol XC3195A-3PG175I]

## XC3195A-3PG175I
designator U?
Logic Cell Array with 484 CLBs, with 144 I/O Pins, 175-Pin PGA, Industrial Grade; ComponentAvailability: Not for New Design; Published: 8-Jun-2000; LatestRevisionDate: 04-Mar-2005; LatestRevisionNote: Stylized 3D Model Added.; DatasheetVersion: 1994; PackageVersion: ver1.1, Apr-2001; PackageReference: PG175; Publisher: Altium Limited; PackageDescription: 175-Pin Ceramic Pin Grid Array (PG175); Code_JEDEC: MO-067-AH; ComponentLink1Description: Manufacturer Link; ComponentLink1URL: http://www.xilinx.com/xlnx/xweb/xil_publications_display.jsp?sGlobalNavPick=&sSecondaryNavPick=&category=-18989&iLanguageID=1; ComponentLink2Description: Datasheet; ComponentLink2URL: http://direct.xilinx.com/bvdocs/publications/3000.pdf
footprint PG175 (PGA, 175-Leads, Body 42x42mm, Pitch 2.54mm)
3D model XC3195A-PG175 (175-Pin Ceramic Pin Grid Array (PG175))
pins: A2 N/C, A3 N/C, A4 I/O (io), A5 I/O (io), A6 I/O (io), A7 I/O (io), A8 I/O (io), A9 I/O (io), A10 I/O (io), A11 I/O (io), A12 I/O (io), A13 I/O (io), A14 I/O (io), A15 N/C, A16 N/C, B1 I/O (io), B2 ~{PWRDN} (in), B3 I/O (io), B4 I/O (io), B5 I/O (io), B6 I/O (io), B7 I/O (io), B8 I/O (io), B9 I/O (io), B10 I/O (io), B11 I/O (io), B12 I/O (io), B13 I/O (io), B14 M1-~{RDATA} (out), B15 M0-RTRIG (in), B16 I/O (io), C1 A8-I/O (io), C2 A9-I/O (io), C3 GND (power), C4 I/O (io), C5 I/O (io), C6 I/O (io), C7 I/O (io), C8 I/O (io), C9 I/O (io), C10 I/O (io), C11 I/O (io), C12 I/O (io), C13 I/O (io), C14 GND (power), C15 M2-I/O (io), C16 I/O (io), D1 A11-I/O (io), D2 I/O (io), D3 VCC (power), D4 TCLKIN-I/O (io), D5 I/O (io), D6 I/O (io), D7 I/O (io), D8 GND (power), D9 VCC (power), D10 I/O (io), D11 I/O (io), D12 I/O (io), D13 I/O (io), D14 VCC (power), D15 I/O (io), D16 ~{LDC}-I/O (io), E1 A7-I/O (io), E2 I/O (io), E3 A10-I/O (io), E14 HDC-I/O (io), E15 I/O (io), E16 I/O (io), F1 I/O (io), F2 A12-I/O (io), F3 I/O (io), F14 I/O (io), F15 I/O (io), F16 I/O (io), G1 I/O (io), G2 I/O (io), G3 I/O (io), G14 I/O (io), G15 I/O (io), G16 I/O (io), H1 A6-I/O (io), H2 A13-I/O (io), H3 VCC (power), H14 VCC (power), H15 ~{INIT}-I/O (io), H16 I/O (io), J1 I/O (io), J2 I/O (io), J3 GND (power), J14 GND (power), J15 I/O (io), J16 I/O (io), K1 A5-I/O (io), K2 A14-I/O (io), K3 I/O (io), K14 I/O (io), K15 I/O (io), K16 I/O (io), L1 I/O (io), L2 A4-I/O (io), L3 I/O (io), L14 I/O (io), L15 I/O (io), L16 I/O (io), M1 A15-I/O (io), M2 I/O (io), M3 A1-CS2-I/O (io), M14 I/O (io), M15 I/O (io), M16 I/O (io), N1 A3-I/O (io), N2 I/O (io), N3 GND (power), N4 DOUT-I/O (io), N5 I/O (io), N6 I/O (io), N7 I/O (io), N8 GND (power), N9 VCC (power), N10 I/O (io), N11 I/O (io), N12 I/O (io), N13 D7-I/O (io), N14 GND (power), N15 I/O (io), N16 I/O (io), P1 A2-I/O (io), P2 A0-~{WS}-I/O (io), P3 VCC (power), P4 I/O (io), P5 RDY/~{BUSY}-~{BCLK}-I/O (io), P6 I/O (io), P7 I/O (io), P8 D3-I/O (io), P9 I/O (io), P10 I/O (io), P11 I/O (io), P12 D6-I/O (io), P13 I/O (io), P14 VCC (power), P15 XTAL2(IN)-I/O (io), P16 I/O (io), R1 I/O (io), R2 CCLK (io), R3 D0-DIN-I/O (io), R4 I/O (io), R5 D1-I/O (io), R6 I/O (io), R7 D2-I/O (io), R8 ~{CS}1-I/O (io), R9 D4-I/O (io), R10 ~{CS}0-I/O (io), R11 I/O (io), R12 I/O (io), R13 I/O (io), R14 DONE-~{PG} (out), R15 ~{RESET} (in), R16 I/O (io), T1 N/C, T2 N/C, T3 N/C, T4 I/O (io), T5 I/O (io), T6 I/O (io), T7 I/O (io), T8 I/O (io), T9 I/O (io), T10 I/O (io), T11 D5-I/O (io), T12 I/O (io), T13 I/O (io), T14 BCLKIN-XTAL1(OUT)-I/O (io), T15 N/C, T16 N/C

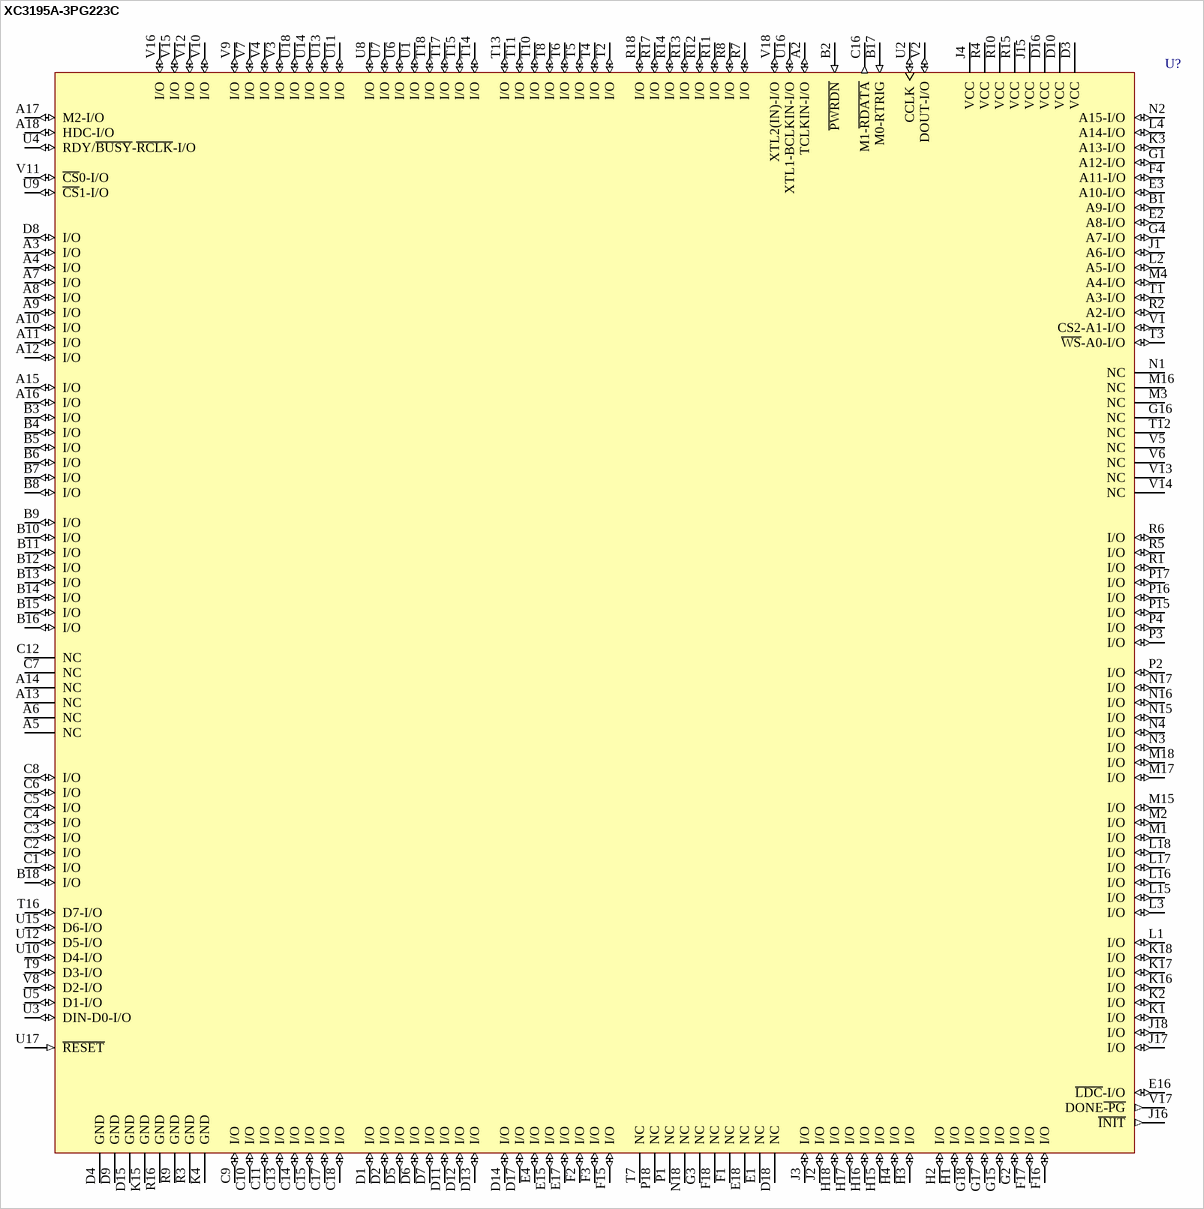
[diagram p285: symbol XC3195A-3PG223C]

## XC3195A-3PG223C
designator U?
Logic Cell Array with 484 CLBs, with 174 I/O Pins, 223-Pin PGA, Commercial Grade; ComponentAvailability: Not for New Design; Published: 8-Jun-2000; LatestRevisionDate: 04-Mar-2005; LatestRevisionNote: Stylized 3D Model Added.; DatasheetVersion: 1994; PackageVersion: ver1.0, Jun-2000; PackageReference: PG223; Publisher: Altium Limited; PackageDescription: 223-Pin Ceramic Pin Grid Array (PG223); ComponentLink1Description: Manufacturer Link; ComponentLink1URL: http://www.xilinx.com/xlnx/xweb/xil_publications_display.jsp?sGlobalNavPick=&sSecondaryNavPick=&category=-18989&iLanguageID=1; ComponentLink2Description: Datasheet; ComponentLink2URL: http://direct.xilinx.com/bvdocs/publications/3000.pdf
footprint PG223 (PGA, 223-Leads, Body 47x47mm, Pitch 2.54mm)
3D model XC3195A-PG223 (223-Pin Ceramic Pin Grid Array (PG223))
pins: A2 TCLKIN-I/O (io), A3 I/O (io), A4 I/O (io), A5 NC, A6 NC, A7 I/O (io), A8 I/O (io), A9 I/O (io), A10 I/O (io), A11 I/O (io), A12 I/O (io), A13 NC, A14 NC, A15 I/O (io), A16 I/O (io), A17 M2-I/O (io), A18 HDC-I/O (io), B1 A9-I/O (io), B2 ~{PWRDN} (in), B3 I/O (io), B4 I/O (io), B5 I/O (io), B6 I/O (io), B7 I/O (io), B8 I/O (io), B9 I/O (io), B10 I/O (io), B11 I/O (io), B12 I/O (io), B13 I/O (io), B14 I/O (io), B15 I/O (io), B16 I/O (io), B17 M0-RTRIG (in), B18 I/O (io), C1 I/O (io), C2 I/O (io), C3 I/O (io), C4 I/O (io), C5 I/O (io), C6 I/O (io), C7 NC, C8 I/O (io), C9 I/O (io), C10 I/O (io), C11 I/O (io), C12 NC, C13 I/O (io), C14 I/O (io), C15 I/O (io), C16 M1-~{RDATA} (out), C17 I/O (io), C18 I/O (io), D1 I/O (io), D2 I/O (io), D3 VCC (power), D4 GND (power), D5 I/O (io), D6 I/O (io), D7 I/O (io), D8 I/O (io), D9 GND (power), D10 VCC (power), D11 I/O (io), D12 I/O (io), D13 I/O (io), D14 I/O (io), D15 GND (power), D16 VCC (power), D17 I/O (io), D18 NC, E1 NC, E2 A8-I/O (io), E3 A10-I/O (io), E4 I/O (io), E15 I/O (io), E16 ~{LDC}-I/O (io), E17 I/O (io), E18 NC, F1 NC, F2 I/O (io), F3 I/O (io), F4 A11-I/O (io), F15 I/O (io), F16 I/O (io), F17 I/O (io), F18 NC, G1 A12-I/O (io), G2 I/O (io), G3 NC, G4 A7-I/O (io), G15 I/O (io), G16 NC, G17 I/O (io), G18 I/O (io), H1 I/O (io), H2 I/O (io), H3 I/O (io), H4 I/O (io), H15 I/O (io), H16 I/O (io), H17 I/O (io), H18 I/O (io), J1 A6-I/O (io), J2 I/O (io), J3 I/O (io), J4 VCC (power), J15 VCC (power), J16 ~{INIT} (out), J17 I/O (io), J18 I/O (io), K1 I/O (io), K2 I/O (io), K3 A13-I/O (io), K4 GND (power), K15 GND (power), K16 I/O (io), K17 I/O (io), K18 I/O (io), L1 I/O (io), L2 A5-I/O (io), L3 I/O (io), L4 A14-I/O (io), L15 I/O (io), L16 I/O (io), L17 I/O (io), L18 I/O (io), M1 I/O (io), M2 I/O (io), M3 NC, M4 A4-I/O (io), M15 I/O (io), M16 NC, M17 I/O (io), M18 I/O (io), N1 NC, N2 A15-I/O (io), N3 I/O (io), N4 I/O (io), N15 I/O (io), N16 I/O (io), N17 I/O (io), N18 NC, P1 NC, P2 I/O (io), P3 I/O (io), P4 I/O (io), P15 I/O (io), P16 I/O (io), P17 I/O (io), P18 NC, R1 I/O (io), R2 A2-I/O (io), R3 GND (power), R4 VCC (power), R5 I/O (io), R6 I/O (io), R7 I/O (io), R8 I/O (io), R9 GND (power), R10 VCC (power), R11 I/O (io), R12 I/O (io), R13 I/O (io), R14 I/O (io), R15 VCC (power), R16 GND (power), R17 I/O (io), R18 I/O (io), T1 A3-I/O (io), T2 I/O (io), T3 ~{WS}-A0-I/O (io), T4 I/O (io), T5 I/O (io), T6 I/O (io), T7 NC, T8 I/O (io), T9 D3-I/O (io), T10 I/O (io), T11 I/O (io), T12 NC, T13 I/O (io), T14 I/O (io), T15 I/O (io), T16 D7-I/O (io), T17 I/O (io), T18 I/O (io), U1 I/O (io), U2 CCLK (io), U3 DIN-D0-I/O (io), U4 RDY/~{BUSY}-~{RCLK}-I/O (io), U5 D1-I/O (io), U6 I/O (io), U7 I/O (io), U8 I/O (io), U9 ~{CS}1-I/O (io), U10 D4-I/O (io), U11 I/O (io), U12 D5-I/O (io), U13 I/O (io), U14 I/O (io), U15 D6-I/O (io), U16 XTL1-BCLKIN-I/O (io), U17 ~{RESET} (in), U18 I/O (io), V1 CS2-A1-I/O (io), V2 DOUT-I/O (io), V3 I/O (io), V4 I/O (io), V5 NC, V6 NC, V7 I/O (io), V8 D2-I/O (io), V9 I/O (io), V10 I/O (io), V11 ~{CS}0-I/O (io), V12 I/O (io), V13 NC, V14 NC, V15 I/O (io), V16 I/O (io), V17 DONE~{-PG} (out), V18 XTL2(IN)-I/O (io)

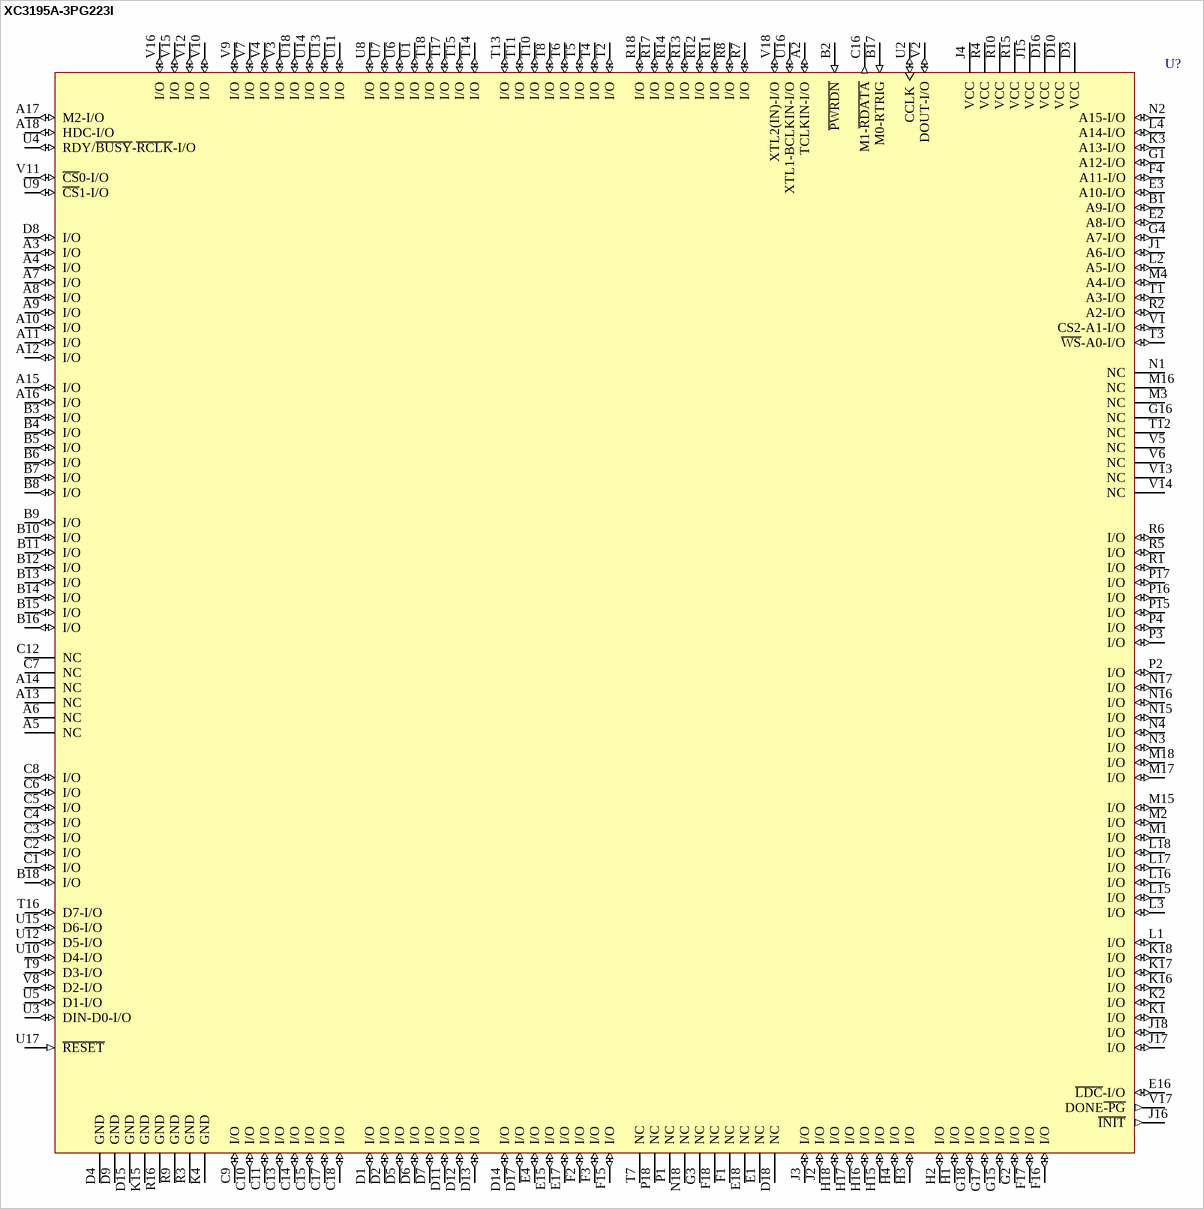
[diagram p286: symbol XC3195A-3PG223I]